# Altium schematic symbol library comp_lib_schem.SchLib: 292 symbols (part 1 of 4)
Pins are listed as number, name and electrical type; pins without a type are passive.

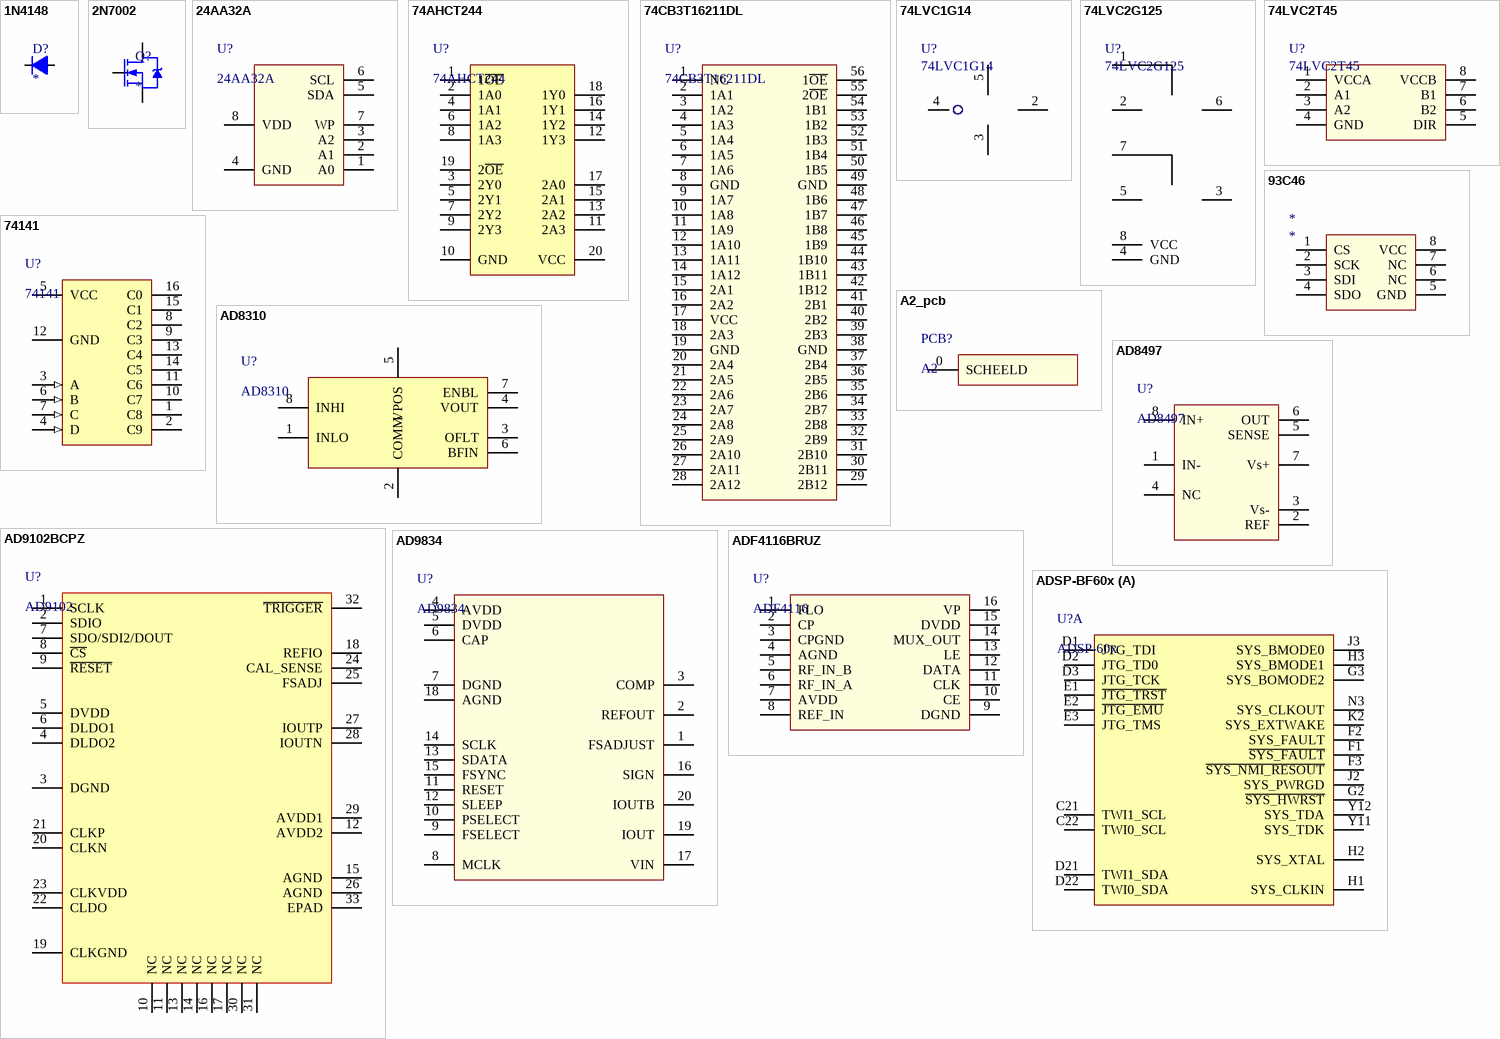
[diagram p0: symbols 1N4148 to ADSP-BF60x]

## 1N4148
designator D?
footprint minimelf
footprint SOD123; pin to pad 1>A 2>K
pins: 1 A, 2 K

## 2N7002
designator Q?
footprint SOT23-3; pin to pad 2>3 3>2
pins: 1 G, 2 D, 3 S

## 24AA32A
designator U?
footprint SOIC8
pins: 1 A0, 2 A1, 3 A2, 4 GND, 5 SDA, 6 SCL, 7 WP, 8 VDD

## 74AHCT244
designator U?
Octal buffer/line driver
footprint TSSOP20 (20-LEAD PLASTIC TSSOP)
footprint SO20 (SOIC, 20-Leads, Body 12,80x7,50mm, Pitch 1,27mm, IPC Medium Density)
pins: 1 1~{OE}, 2 1A0, 3 2Y0, 4 1A1, 5 2Y1, 6 1A2, 7 2Y2, 8 1A3, 9 2Y3, 10 GND, 11 2A3, 12 1Y3, 13 2A2, 14 1Y2, 15 2A1, 16 1Y1, 17 2A0, 18 1Y0, 19 2~{OE}, 20 VCC

## 74CB3T16211DL
designator U?
footprint PSOP56
pins: 1 NC, 2 1A1, 3 1A2, 4 1A3, 5 1A4, 6 1A5, 7 1A6, 8 GND, 9 1A7, 10 1A8, 11 1A9, 12 1A10, 13 1A11, 14 1A12, 15 2A1, 16 2A2, 17 VCC, 18 2A3, 19 GND, 20 2A4, 21 2A5, 22 2A6, 23 2A7, 24 2A8, 25 2A9, 26 2A10, 27 2A11, 28 2A12, 29 2B12, 30 2B11, 31 2B10, 32 2B9, 33 2B8, 34 2B7, 35 2B6, 36 2B5, 37 2B4, 38 GND, 39 2B3, 40 2B2, 41 2B1, 42 1B12, 43 1B11, 44 1B10, 45 1B9, 46 1B8, 47 1B7, 48 1B6, 49 GND, 50 1B5, 51 1B4, 52 1B3, 53 1B2, 54 1B1, 55 2~{OE}, 56 1~{OE}

## 74LVC1G14
designator U?
footprint SOT23-5 (SOT23, 5-Leads, Body 2.9x1.6mm, Pitch 0.95mm, Lead Span 2.8mm, IPC Medium Density)
pins: 2 A, 3 GND, 4 Y, 5 VCC

## 74LVC2G125
designator U?
footprint TSOP8N_DCT (TSOP, 8-Leads, Body 2,95x2,80mm, Pitch 0,65mm, IPC Medium Density)
pins: 1 ~{OE1}, 2 A1, 3 Y2, 4 GND, 5 A2, 6 Y1, 7 ~{OE2}, 8 VCC

## 74LVC2T45
designator U?
footprint TSOP8N_DCT (TSOP, 8-Leads, Body 2,95x2,80mm, Pitch 0,65mm, IPC Medium Density)
pins: 1 VCCA, 2 A1, 3 A2, 4 GND, 5 DIR, 6 B2, 7 B1, 8 VCCB

## 93C46
designator *
footprint SOIC8
pins: 1 CS, 2 SCK, 3 SDI, 4 SDO, 5 GND, 6 NC, 7 NC, 8 VCC

## 74141
designator U?
BCD to Decimal DEvoder/Driver
footprint DIP16
pins: 1 C8, 2 C9 (oc), 3 A (in), 4 D (in), 5 VCC (power), 6 B (in), 7 C (in), 8 C2, 9 C3, 10 C7, 11 C6, 12 GND (power), 13 C4, 14 C5, 15 C1, 16 C0

## A2_pcb
designator PCB?, comment A2
footprint A2_PCB (Plytka do a2)
pins: 0 SCHEELD

## AD8310
designator U?
Power Detector, Voltage-Out, DC to 440 MHz
footprint MSOP8 (COMPLIANT TO JEDEC STANDARDS MO-187-AA)
pins: 1 INLO, 2 COMM, 3 OFLT, 4 VOUT, 5 VPOS, 6 BFIN, 7 ENBL, 8 INHI

## AD8497
designator U?
Thermocouple Amplifier with Cold Junction Compensation
footprint MSOP8 (COMPLIANT TO JEDEC STANDARDS MO-187-AA)
pins: 1 IN-, 2 REF, 3 Vs-, 4 NC, 5 SENSE, 6 OUT, 7 Vs+, 8 IN+

## AD9102BCPZ
designator U?, comment AD9102
14-Bit, 180 MSPS, Digital-to-Analog  Converter and Waveform Generator
footprint LFCP32
pins: 1 SCLK (power), 2 SDIO (power), 3 DGND (power), 4 DLDO2 (power), 5 DVDD (power), 6 DLDO1 (power), 7 SDO/SDI2/DOUT (power), 8 ~{CS} (power), 9 ~{RESET} (power), 10 NC (power), 11 NC (power), 12 AVDD2 (power), 13 NC (power), 14 NC (power), 15 AGND (power), 16 NC (power), 17 NC (power), 18 REFIO (power), 19 CLKGND (power), 20 CLKN (power), 21 CLKP (power), 22 CLDO (power), 23 CLKVDD (power), 24 CAL_SENSE (power), 25 FSADJ (power), 26 AGND (power), 27 IOUTP (power), 28 IOUTN (power), 29 AVDD1 (power), 30 NC (power), 31 NC (power), 32 ~{TRIGGER} (power), 33 EPAD (power)

## AD9834
designator U?
75 MHz Complete DDS
footprint TSSOP20 (20-LEAD PLASTIC TSSOP)
pins: 1 FSADJUST, 2 REFOUT, 3 COMP, 4 AVDD, 5 DVDD, 6 CAP, 7 DGND, 8 MCLK, 9 FSELECT, 10 PSELECT, 11 RESET, 12 SLEEP, 13 SDATA, 14 SCLK, 15 FSYNC, 16 SIGN, 17 VIN, 18 AGND, 19 IOUT, 20 IOUTB

## ADF4116BRUZ
designator U?, comment ADF4116
footprint TSSOP16
pins: 1 FLO, 2 CP, 3 CPGND, 4 AGND, 5 RF_IN_B, 6 RF_IN_A, 7 AVDD, 8 REF_IN, 9 DGND, 10 CE, 11 CLK, 12 DATA, 13 LE, 14 MUX_OUT, 15 DVDD, 16 VP

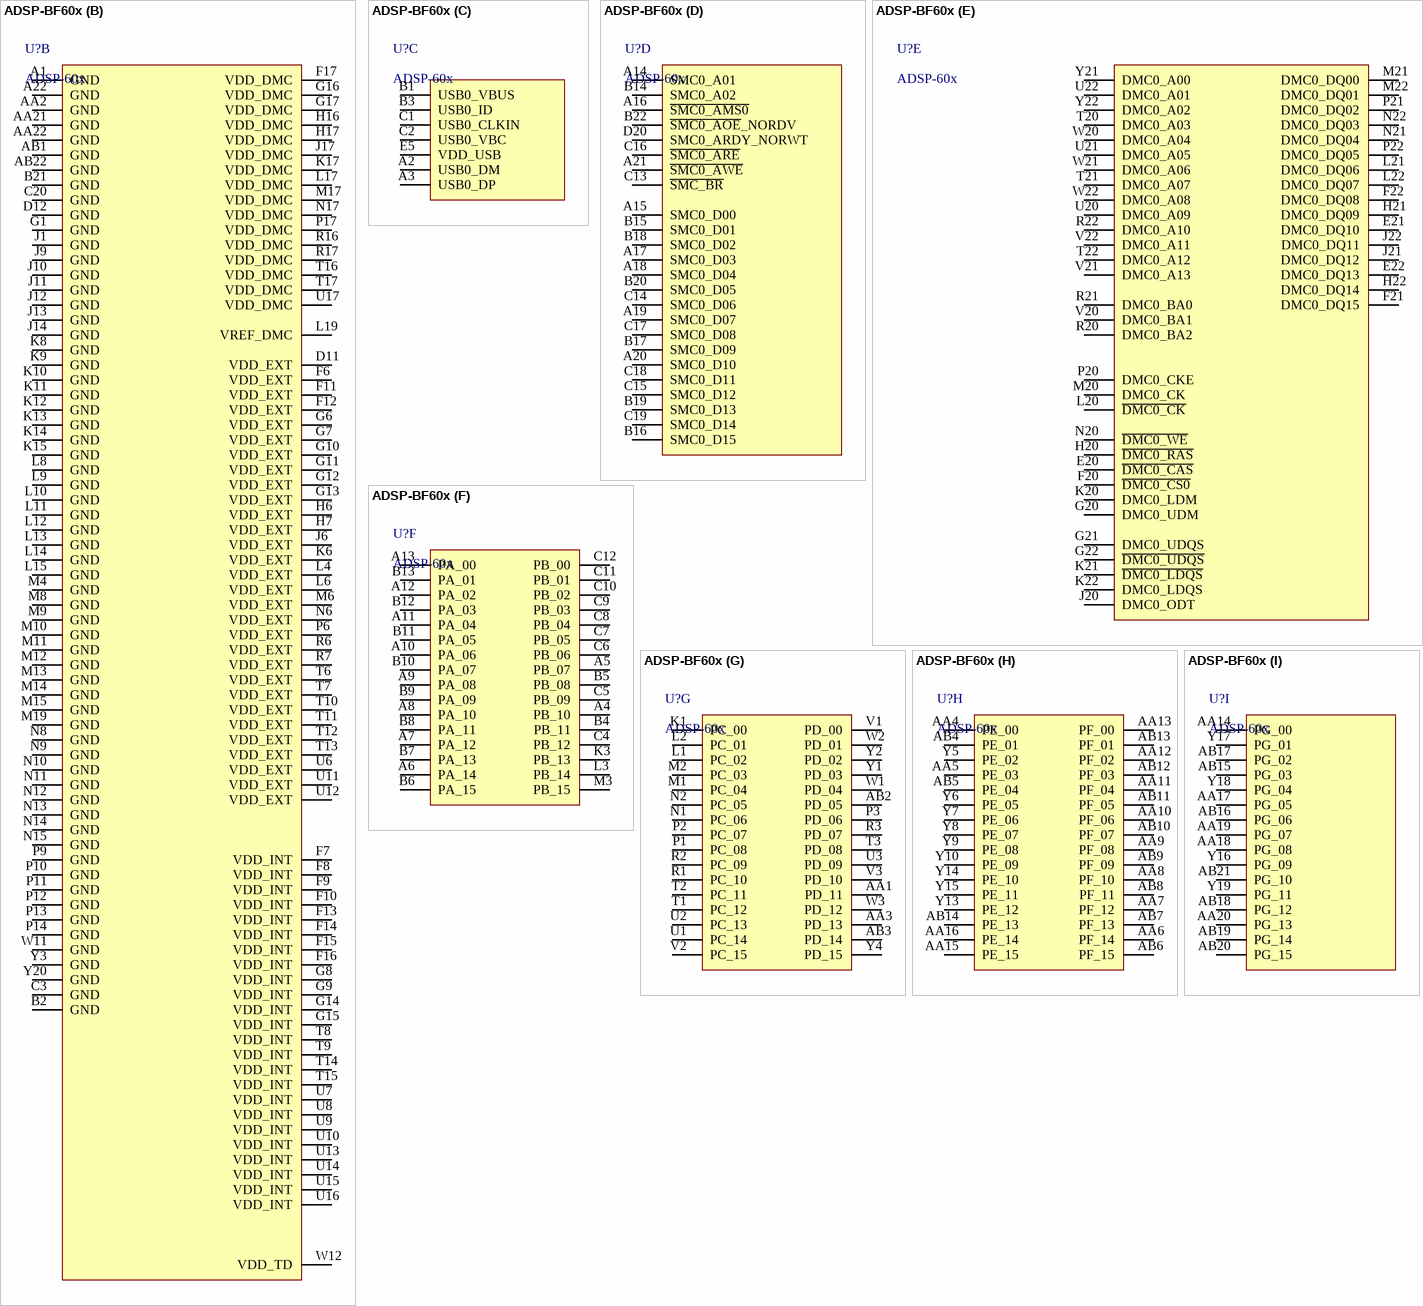
[diagram p1: symbol ADSP-BF60x]

## ADSP-BF60x
designator U?, comment ADSP-60x
Blackfin Dual Core DSP Embedded Processor
footprint BC-349-1 (349-Ball Chip Scale Package Ball Grid Array [CSP_BGA])
part A pins: C21 TWI1_SCL, C22 TWI0_SCL, D1 JTG_TDI, D2 JTG_TD0, D3 JTG_TCK, D21 TWI1_SDA, D22 TWI0_SDA, E1 ~{JTG_TRST}, E2 ~{JTG_EMU}, E3 JTG_TMS, F1 ~{SYS_FAULT}, F2 SYS_FAULT, F3 ~{SYS_NMI_RESOUT}, G2 ~{SYS_HWRST}, G3 SYS_BOMODE2, H1 SYS_CLKIN, H2 SYS_XTAL, H3 SYS_BMODE1, J2 SYS_PWRGD, J3 SYS_BMODE0, K2 SYS_EXTWAKE, N3 SYS_CLKOUT, Y11 SYS_TDK, Y12 SYS_TDA
part B pins: A1 GND, A22 GND, AA2 GND, AA21 GND, AA22 GND, AB1 GND, AB22 GND, B2 GND, B21 GND, C3 GND, C20 GND, D11 VDD_EXT, D12 GND, F6 VDD_EXT, F7 VDD_INT, F8 VDD_INT, F9 VDD_INT, F10 VDD_INT, F11 VDD_EXT, F12 VDD_EXT, F13 VDD_INT, F14 VDD_INT, F15 VDD_INT, F16 VDD_INT, F17 VDD_DMC, G1 GND, G6 VDD_EXT, G7 VDD_EXT, G8 VDD_INT, G9 VDD_INT, G10 VDD_EXT, G11 VDD_EXT, G12 VDD_EXT, G13 VDD_EXT, G14 VDD_INT, G15 VDD_INT, G16 VDD_DMC, G17 VDD_DMC, H6 VDD_EXT, H7 VDD_EXT, H16 VDD_DMC, H17 VDD_DMC, J1 GND, J6 VDD_EXT, J9 GND, J10 GND, J11 GND, J12 GND, J13 GND, J14 GND, J17 VDD_DMC, K6 VDD_EXT, K8 GND, K9 GND, K10 GND, K11 GND, K12 GND, K13 GND, K14 GND, K15 GND, K17 VDD_DMC, L4 VDD_EXT, L6 VDD_EXT, L8 GND, L9 GND, L10 GND, L11 GND, L12 GND, L13 GND, L14 GND, L15 GND, L17 VDD_DMC, L19 VREF_DMC, M4 GND, M6 VDD_EXT, M8 GND, M9 GND, M10 GND, M11 GND, M12 GND, M13 GND, M14 GND, M15 GND, M17 VDD_DMC, M19 GND, N6 VDD_EXT, N8 GND, N9 GND, N10 GND, N11 GND, N12 GND, N13 GND, N14 GND, N15 GND, N17 VDD_DMC, P6 VDD_EXT, P9 GND, P10 GND, P11 GND, P12 GND, P13 GND, P14 GND, P17 VDD_DMC, R6 VDD_EXT, R7 VDD_EXT, R16 VDD_DMC, R17 VDD_DMC, T6 VDD_EXT, T7 VDD_EXT, T8 VDD_INT, T9 VDD_INT, T10 VDD_EXT, T11 VDD_EXT, T12 VDD_EXT, T13 VDD_EXT, T14 VDD_INT, T15 VDD_INT, T16 VDD_DMC, T17 VDD_DMC, U6 VDD_EXT, U7 VDD_INT, U8 VDD_INT, U9 VDD_INT, U10 VDD_INT, U11 VDD_EXT, U12 VDD_EXT, U13 VDD_INT, U14 VDD_INT, U15 VDD_INT, U16 VDD_INT, U17 VDD_DMC, W11 GND, W12 VDD_TD, Y3 GND, Y20 GND
part C pins: A2 USB0_DM, A3 USB0_DP, B1 USB0_VBUS, B3 USB0_ID, C1 USB0_CLKIN, C2 USB0_VBC, E5 VDD_USB
part D pins: A14 SMC0_A01, A15 SMC0_D00, A16 ~{SMC0_AMS0}, A17 SMC0_D03, A18 SMC0_D04, A19 SMC0_D07, A20 SMC0_D10, A21 ~{SMC0_AWE}, B14 SMC0_A02, B15 SMC0_D01, B16 SMC0_D15, B17 SMC0_D09, B18 SMC0_D02, B19 SMC0_D13, B20 SMC0_D05, B22 ~{SMC0_AOE}_NORDV, C13 ~{SMC_BR}, C14 SMC0_D06, C15 SMC0_D12, C16 ~{SMC0_ARE}, C17 SMC0_D08, C18 SMC0_D11, C19 SMC0_D14, D20 SMC0_ARDY_NORWT
part E pins: E20 ~{DMC0_CAS}, E21 DMC0_DQ10, E22 DMC0_DQ13, F20 ~{DMC0_CS0}, F21 DMC0_DQ15, F22 DMC0_DQ08, G20 DMC0_UDM, G21 DMC0_UDQS, G22 ~{DMC0_UDQS}, H20 ~{DMC0_RAS}, H21 DMC0_DQ09, H22 DMC0_DQ14, J20 DMC0_ODT, J21 DMC0_DQ12, J22 DMC0_DQ11, K20 DMC0_LDM, K21 ~{DMC0_LDQS}, K22 DMC0_LDQS, L20 ~{DMC0_CK}, L21 DMC0_DQ06, L22 DMC0_DQ07, M20 DMC0_CK, M21 DMC0_DQ00, M22 DMC0_DQ01, N20 ~{DMC0_WE}, N21 DMC0_DQ04, N22 DMC0_DQ03, P20 DMC0_CKE, P21 DMC0_DQ02, P22 DMC0_DQ05, R20 DMC0_BA2, R21 DMC0_BA0, R22 DMC0_A10, T20 DMC0_A03, T21 DMC0_A07, T22 DMC0_A12, U20 DMC0_A09, U21 DMC0_A05, U22 DMC0_A01, V20 DMC0_BA1, V21 DMC0_A13, V22 DMC0_A11, W20 DMC0_A04, W21 DMC0_A06, W22 DMC0_A08, Y21 DMC0_A00, Y22 DMC0_A02
part F pins: A4 PB_10, A5 PB_07, A6 PA_14, A7 PA_12, A8 PA_10, A9 PA_08, A10 PA_06, A11 PA_04, A12 PA_02, A13 PA_00, B4 PB_11, B5 PB_08, B6 PA_15, B7 PA_13, B8 PA_11, B9 PA_09, B10 PA_07, B11 PA_05, B12 PA_03, B13 PA_01, C4 PB_12, C5 PB_09, C6 PB_06, C7 PB_05, C8 PB_04, C9 PB_03, C10 PB_02, C11 PB_01, C12 PB_00, K3 PB_13, L3 PB_14, M3 PB_15
part G pins: AA1 PD_11, AA3 PD_13, AB2 PD_05, AB3 PD_14, K1 PC_00, L1 PC_02, L2 PC_01, M1 PC_04, M2 PC_03, N1 PC_06, N2 PC_05, P1 PC_08, P2 PC_07, P3 PD_06, R1 PC_10, R2 PC_09, R3 PD_07, T1 PC_12, T2 PC_11, T3 PD_08, U1 PC_14, U2 PC_13, U3 PD_09, V1 PD_00, V2 PC_15, V3 PD_10, W1 PD_04, W2 PD_01, W3 PD_12, Y1 PD_03, Y2 PD_02, Y4 PD_15
part H pins: AA4 PE_00, AA5 PE_03, AA6 PF_14, AA7 PF_12, AA8 PF_10, AA9 PF_08, AA10 PF_06, AA11 PF_04, AA12 PF_02, AA13 PF_00, AA15 PE_15, AA16 PE_14, AB4 PE_01, AB5 PE_04, AB6 PF_15, AB7 PF_13, AB8 PF_11, AB9 PF_09, AB10 PF_07, AB11 PF_05, AB12 PF_03, AB13 PF_01, AB14 PE_13, Y5 PE_02, Y6 PE_05, Y7 PE_06, Y8 PE_07, Y9 PE_08, Y10 PE_09, Y13 PE_12, Y14 PE_10, Y15 PE_11
part I pins: AA14 PG_00, AA17 PG_05, AA18 PG_08, AA19 PG_07, AA20 PG_13, AB15 PG_03, AB16 PG_06, AB17 PG_02, AB18 PG_12, AB19 PG_14, AB20 PG_15, AB21 PG_10, Y16 PG_09, Y17 PG_01, Y18 PG_04, Y19 PG_11

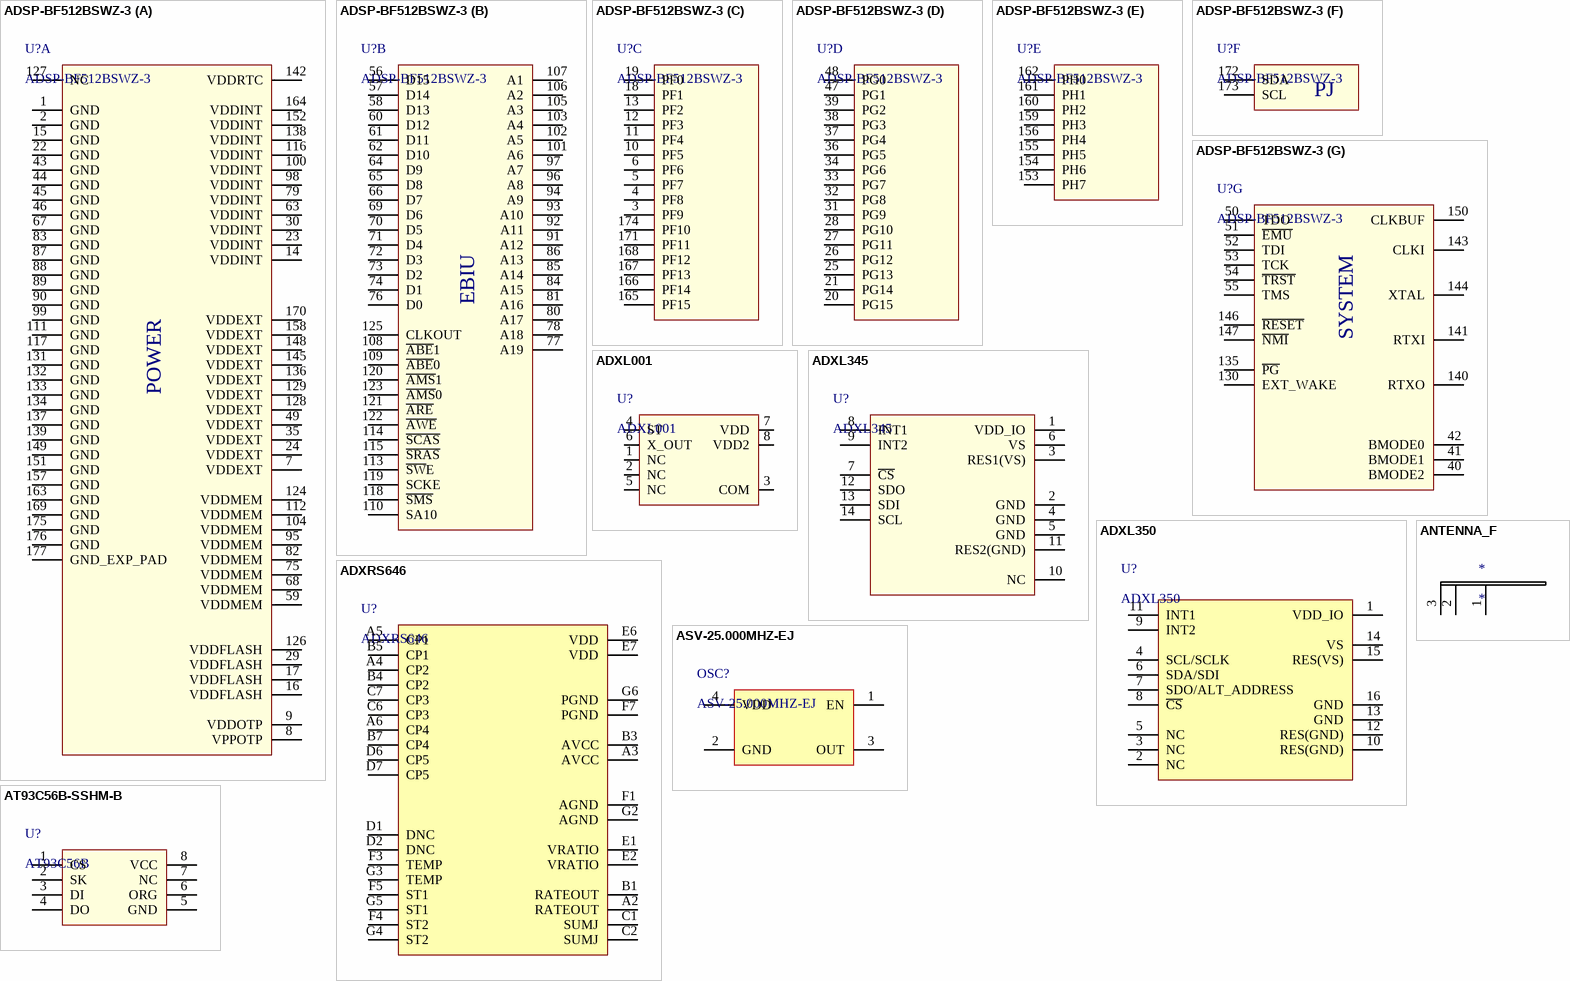
[diagram p2: symbols ADSP-BF512BSWZ-3 to AT93C56B-SSHM-B]

## ADSP-BF512BSWZ-3
designator U?
Fixed Point 16-bit DSP 300MHz
footprint LQFP_EP_176 (TSQFP, 176-Leads, Body 24,00x24,00mm, Pitch 0,50mm, Thermal Pad 5,80x5,80mm, IPC Medium Density)
part A pins: 1 GND, 2 GND, 7 VDDEXT, 8 VPPOTP, 9 VDDOTP, 14 VDDINT, 15 GND, 16 VDDFLASH, 17 VDDFLASH, 22 GND, 23 VDDINT, 24 VDDEXT, 29 VDDFLASH, 30 VDDINT, 35 VDDEXT, 43 GND, 44 GND, 45 GND, 46 GND, 49 VDDEXT, 59 VDDMEM, 63 VDDINT, 67 GND, 68 VDDMEM, 75 VDDMEM, 79 VDDINT, 82 VDDMEM, 83 GND, 87 GND, 88 GND, 89 GND, 90 GND, 95 VDDMEM, 98 VDDINT, 99 GND, 100 VDDINT, 104 VDDMEM, 111 GND, 112 VDDMEM, 116 VDDINT, 117 GND, 124 VDDMEM, 126 VDDFLASH, 127 NC, 128 VDDEXT, 129 VDDEXT, 131 GND, 132 GND, 133 GND, 134 GND, 136 VDDEXT, 137 GND, 138 VDDINT, 139 GND, 142 VDDRTC, 145 VDDEXT, 148 VDDEXT, 149 GND, 151 GND, 152 VDDINT, 157 GND, 158 VDDEXT, 163 GND, 164 VDDINT, 169 GND, 170 VDDEXT, 175 GND, 176 GND, 177 GND_EXP_PAD
part B pins: 56 D15, 57 D14, 58 D13, 60 D12, 61 D11, 62 D10, 64 D9, 65 D8, 66 D7, 69 D6, 70 D5, 71 D4, 72 D3, 73 D2, 74 D1, 76 D0, 77 A19, 78 A18, 80 A17, 81 A16, 84 A15, 85 A14, 86 A13, 91 A12, 92 A11, 93 A10, 94 A9, 96 A8, 97 A7, 101 A6, 102 A5, 103 A4, 105 A3, 106 A2, 107 A1, 108 ~{ABE}1, 109 ~{ABE}0, 110 SA10, 113 ~{SW}E, 114 ~{SCAS}, 115 ~{SRAS}, 118 ~{SMS}, 119 SCKE, 120 ~{AMS}1, 121 ~{ARE}, 122 ~{AWE}, 123 ~{AMS}0, 125 CLKOUT
part C pins: 3 PF9, 4 PF8, 5 PF7, 6 PF6, 10 PF5, 11 PF4, 12 PF3, 13 PF2, 18 PF1, 19 PF0, 165 PF15, 166 PF14, 167 PF13, 168 PF12, 171 PF11, 174 PF10
part D pins: 20 PG15, 21 PG14, 25 PG13, 26 PG12, 27 PG11, 28 PG10, 31 PG9, 32 PG8, 33 PG7, 34 PG6, 36 PG5, 37 PG4, 38 PG3, 39 PG2, 47 PG1, 48 PG0
part E pins: 153 PH7, 154 PH6, 155 PH5, 156 PH4, 159 PH3, 160 PH2, 161 PH1, 162 PH0
part F pins: 172 SDA, 173 SCL
part G pins: 40 BMODE2, 41 BMODE1, 42 BMODE0, 50 TDO, 51 ~{EMU}, 52 TDI, 53 TCK, 54 ~{TRST}, 55 TMS, 130 EXT_WAKE, 135 ~{PG}, 140 RTXO, 141 RTXI, 143 CLKI, 144 XTAL, 146 ~{RESET}, 147 ~{NMI}, 150 CLKBUF
part A text: POWER
part B text: EBIU
part F text: PJ
part G text: SYSTEM

## ADXL001
designator U?
footprint LCC8_AD (LCC, 8-Pins, Body 5,03x4,50mmx2,39mm, Pitch 1,27mm, IPC Medium Density)
pins: 1 NC, 2 NC, 3 COM, 4 ST, 5 NC, 6 X_OUT, 7 VDD, 8 VDD2

## ADXL345
designator U?
footprint LGA14
pins: 1 VDD_IO, 2 GND, 3 RES1(VS), 4 GND, 5 GND, 6 VS, 7 ~{CS}, 8 INT1, 9 INT2, 10 NC, 11 RES2(GND), 12 SDO, 13 SDI, 14 SCL

## ADXL350
designator U?
3-Axis, ±1 g/±2 g/±4 g/±8 g Digital Accelerometer
pins: 1 VDD_IO, 2 NC, 3 NC, 4 SCL/SCLK, 5 NC, 6 SDA/SDI, 7 SDO/ALT_ADDRESS, 8 ~{CS}, 9 INT2, 10 RES(GND), 11 INT1, 12 RES(GND), 13 GND, 14 VS, 15 RES(VS), 16 GND

## ADXRS646
designator U?
Low Noise Yaw Rate Gyroscope
footprint BGA_32_3 (BGA, 49-Leads, Body 6,88x6,88mmx3,80mm, Pitch 0,80mm)
pins: A2 RATEOUT, A3 AVCC, A4 CP2, A5 CP1, A6 CP4, B1 RATEOUT, B3 AVCC, B4 CP2, B5 CP1, B7 CP4, C1 SUMJ, C2 SUMJ, C6 CP3, C7 CP3, D1 DNC, D2 DNC, D6 CP5, D7 CP5, E1 VRATIO, E2 VRATIO, E6 VDD, E7 VDD, F1 AGND, F3 TEMP, F4 ST2, F5 ST1, F7 PGND, G2 AGND, G3 TEMP, G4 ST2, G5 ST1, G6 PGND

## ANTENNA_F
designator *
footprint ANTENNA_F
pins: 1, 2, 3

## ASV-25.000MHZ-EJ
designator OSC?
SMD Crystal Clock Oscillator 25MHz
footprint ASV_xx_EJ (Abracon Generator)
pins: 1 EN (power), 2 GND (power), 3 OUT (power), 4 VDD (power)

## AT93C56B-SSHM-B
designator U?, comment AT93C56B
3-wire Serial EEPROM
footprint SOIC8
pins: 1 CS, 2 SK, 3 DI, 4 DO, 5 GND, 6 ORG, 7 NC, 8 VCC

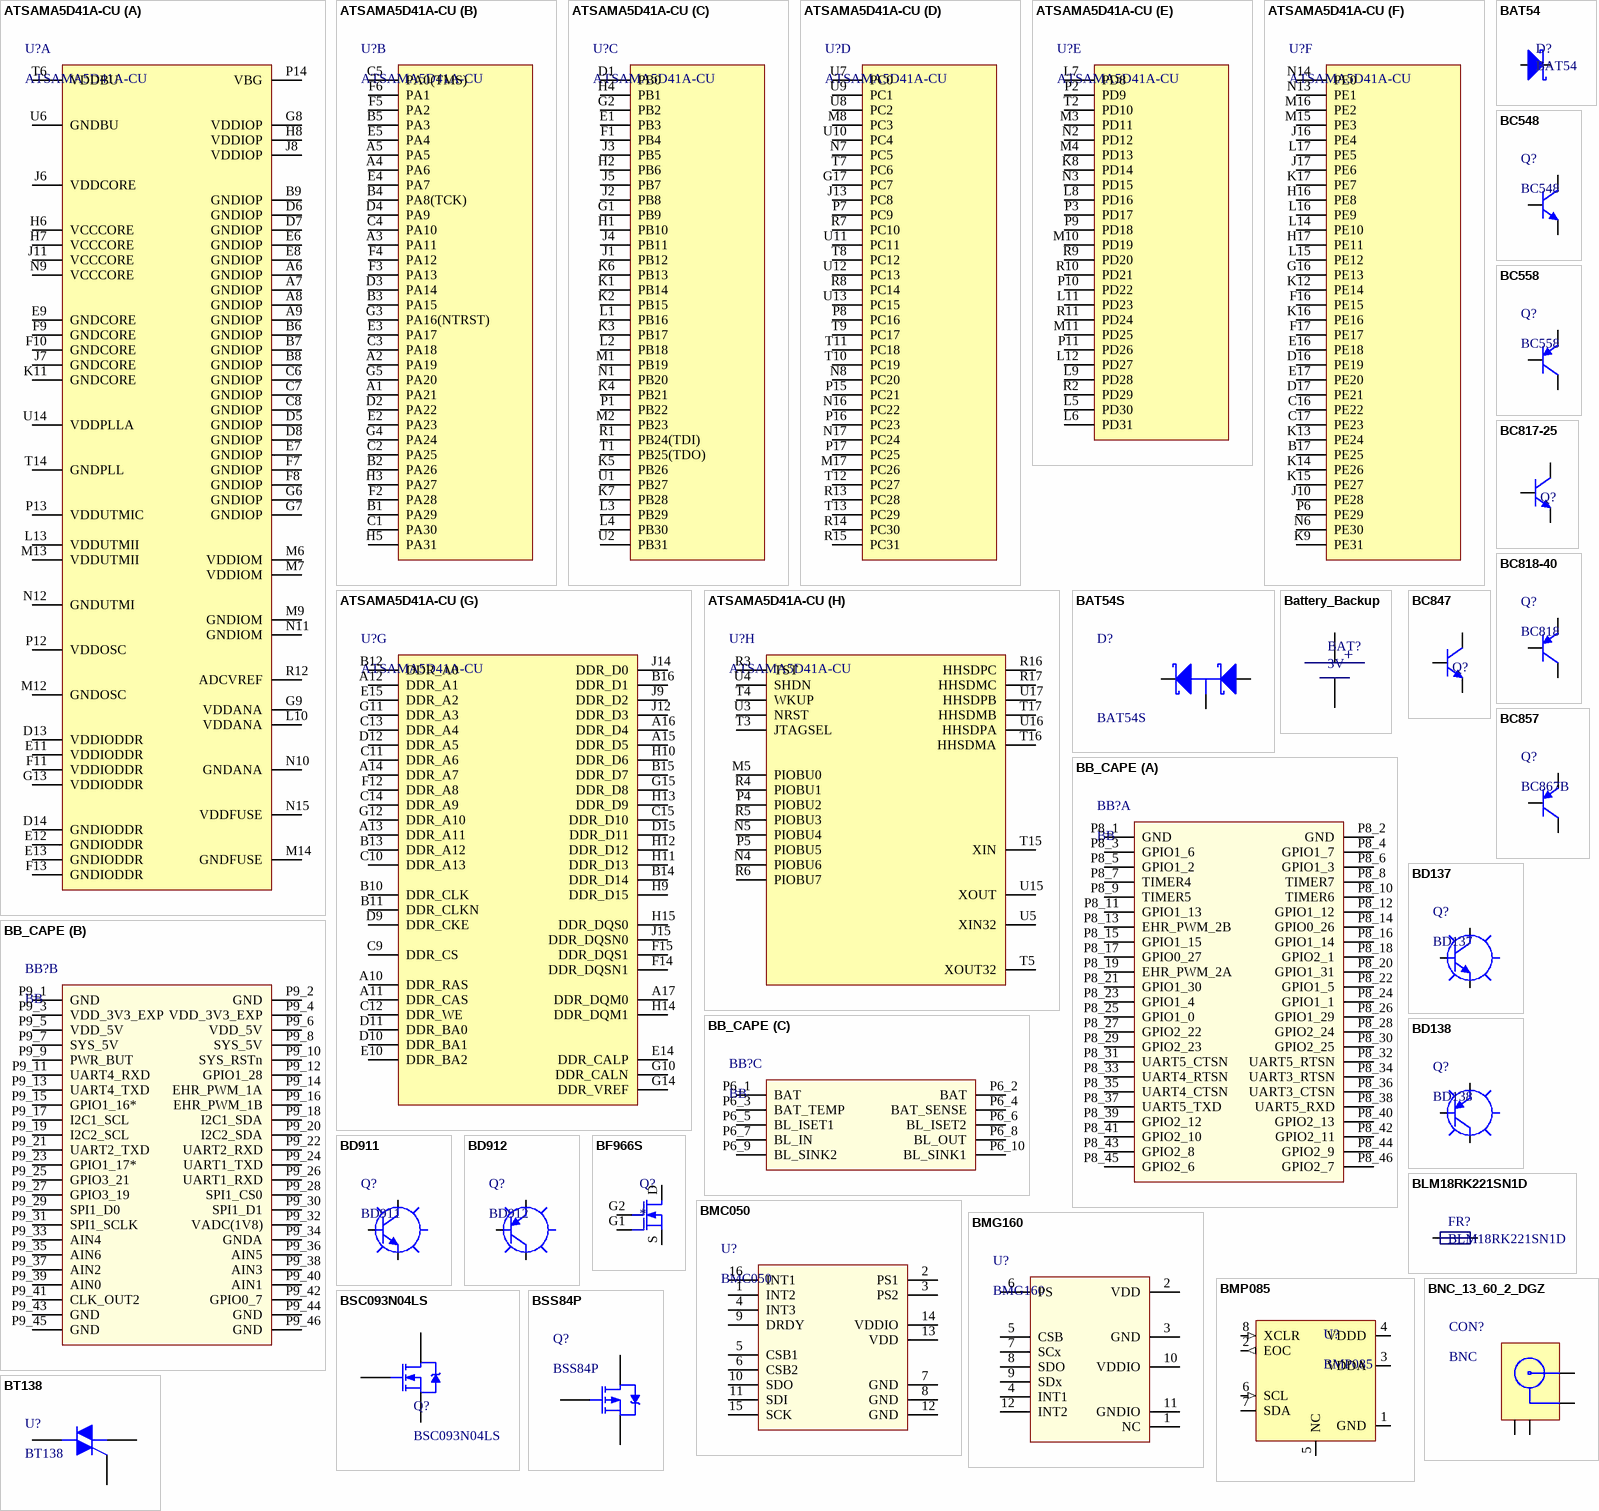
[diagram p3: symbols ATSAMA5D41A-CU to BT138]

## ATSAMA5D41A-CU
designator U?
Atmel | SMART ARM-based Embedded MPU
footprint LFBGA289_A (atmel)
part A pins: A6 GNDIOP, A7 GNDIOP, A8 GNDIOP, A9 GNDIOP, B6 GNDIOP, B7 GNDIOP, B8 GNDIOP, B9 GNDIOP, C6 GNDIOP, C7 GNDIOP, C8 GNDIOP, D5 GNDIOP, D6 GNDIOP, D7 GNDIOP, D8 GNDIOP, D13 VDDIODDR, D14 GNDIODDR, E6 GNDIOP, E7 GNDIOP, E8 GNDIOP, E9 GNDCORE, E11 VDDIODDR, E12 GNDIODDR, E13 GNDIODDR, F7 GNDIOP, F8 GNDIOP, F9 GNDCORE, F10 GNDCORE, F11 VDDIODDR, F13 GNDIODDR, G6 GNDIOP, G7 GNDIOP, G8 VDDIOP, G9 VDDANA, G13 VDDIODDR, H6 VCCCORE, H7 VCCCORE, H8 VDDIOP, J6 VDDCORE, J7 GNDCORE, J8 VDDIOP, J11 VCCCORE, K11 GNDCORE, L10 VDDANA, L13 VDDUTMII, M6 VDDIOM, M7 VDDIOM, M9 GNDIOM, M12 GNDOSC, M13 VDDUTMII, M14 GNDFUSE, N9 VCCCORE, N10 GNDANA, N11 GNDIOM, N12 GNDUTMI, N15 VDDFUSE, P12 VDDOSC, P13 VDDUTMIC, P14 VBG, R12 ADCVREF, T6 VDDBU, T14 GNDPLL, U6 GNDBU, U14 VDDPLLA
part B pins: A1 PA21, A2 PA19, A3 PA11, A4 PA6, A5 PA5, B1 PA29, B2 PA26, B3 PA15, B4 PA8(TCK), B5 PA3, C1 PA30, C2 PA25, C3 PA18, C4 PA10, C5 PA0(TMS), D2 PA22, D3 PA14, D4 PA9, E2 PA23, E3 PA17, E4 PA7, E5 PA4, F2 PA28, F3 PA13, F4 PA12, F5 PA2, F6 PA1, G3 PA16(NTRST), G4 PA24, G5 PA20, H3 PA27, H5 PA31
part C pins: D1 PB0, E1 PB3, F1 PB4, G1 PB9, G2 PB2, H1 PB10, H2 PB6, H4 PB1, J1 PB12, J2 PB8, J3 PB5, J4 PB11, J5 PB7, K1 PB14, K2 PB15, K3 PB17, K4 PB21, K5 PB26, K6 PB13, K7 PB28, L1 PB16, L2 PB18, L3 PB29, L4 PB30, M1 PB19, M2 PB23, N1 PB20, P1 PB22, R1 PB24(TDI), T1 PB25(TDO), U1 PB27, U2 PB31
part D pins: G17 PC7, J13 PC8, M8 PC3, M17 PC26, N7 PC5, N8 PC20, N16 PC22, N17 PC24, P7 PC9, P8 PC16, P15 PC21, P16 PC23, P17 PC25, R7 PC10, R8 PC14, R13 PC28, R14 PC30, R15 PC31, T7 PC6, T8 PC12, T9 PC17, T10 PC19, T11 PC18, T12 PC27, T13 PC29, U7 PC0, U8 PC2, U9 PC1, U10 PC4, U11 PC11, U12 PC13, U13 PC15
part E pins: K8 PD14, L5 PD30, L6 PD31, L7 PD8, L8 PD16, L9 PD28, L11 PD23, L12 PD27, M3 PD11, M4 PD13, M10 PD19, M11 PD25, N2 PD12, N3 PD15, P2 PD9, P3 PD17, P9 PD18, P10 PD22, P11 PD26, R2 PD29, R9 PD20, R10 PD21, R11 PD24, T2 PD10
part F pins: B17 PE25, C16 PE22, C17 PE23, D16 PE19, D17 PE21, E16 PE18, E17 PE20, F16 PE15, F17 PE17, G16 PE13, H16 PE8, H17 PE11, J10 PE28, J16 PE4, J17 PE6, K9 PE31, K12 PE14, K13 PE24, K14 PE26, K15 PE27, K16 PE16, K17 PE7, L14 PE10, L15 PE12, L16 PE9, L17 PE5, M15 PE3, M16 PE2, N6 PE30, N13 PE1, N14 PE0, P6 PE29
part G pins: A10 DDR_RAS, A11 DDR_CAS, A12 DDR_A1, A13 DDR_A11, A14 DDR_A7, A15 DDR_D5, A16 DDR_D4, A17 DDR_DQM0, B10 DDR_CLK, B11 DDR_CLKN, B12 DDR_A0, B13 DDR_A12, B14 DDR_D14, B15 DDR_D7, B16 DDR_D1, C9 DDR_CS, C10 DDR_A13, C11 DDR_A6, C12 DDR_WE, C13 DDR_A4, C14 DDR_A9, C15 DDR_D10, D9 DDR_CKE, D10 DDR_BA1, D11 DDR_BA0, D12 DDR_A5, D15 DDR_D11, E10 DDR_BA2, E14 DDR_CALP, E15 DDR_A2, F12 DDR_A8, F14 DDR_DQSN1, F15 DDR_DQS1, G10 DDR_CALN, G11 DDR_A3, G12 DDR_A10, G14 DDR_VREF, G15 DDR_D8, H9 DDR_D15, H10 DDR_D6, H11 DDR_D13, H12 DDR_D12, H13 DDR_D9, H14 DDR_DQM1, H15 DDR_DQS0, J9 DDR_D2, J12 DDR_D3, J14 DDR_D0, J15 DDR_DQSN0
part H pins: M5 PIOBU0, N4 PIOBU6, N5 PIOBU4, P4 PIOBU2, P5 PIOBU5, R3 TST, R4 PIOBU1, R5 PIOBU3, R6 PIOBU7, R16 HHSDPC, R17 HHSDMC, T3 JTAGSEL, T4 WKUP, T5 XOUT32, T15 XIN, T16 HHSDMA, T17 HHSDMB, U3 NRST, U4 SHDN, U5 XIN32, U15 XOUT, U16 HHSDPA, U17 HHSDPB

## BAT54
designator D?
footprint SOT23-3; pin to pad 2>3
pins: 1 A, 2 K

## BAT54S
designator D?
Schottky Barrier Double Diode; Published: 17-Sep-2003; LatestRevisionDate: 12-Dec-2006; LatestRevisionNote: IPC-7351 Footprint Added.; DatasheetVersion: 4-Mar-2002; PackageVersion: May-1999; PackageReference: SOT23; Publisher: Altium Limited; PackageDescription: 3-Pin SOT-23 Package 0.95 mm Pitch, 2.3 mm Lead Span; ComponentLink1Description: Manufacturer Link; ComponentLink1URL: http://www.semiconductors.philips.com/; ComponentLink2Description: Datasheet; ComponentLink2URL: http://www.semiconductors.philips.com/acrobat/datasheets/BAT54_SERIES_4.pdf
footprint SOT23-3
pins: 1 A, 2 K, 3 C

## Battery_Backup
designator BAT?, comment 3V
footprint CH291-1220LF (COIN CELL BATTERY HOLDER CR1220)
pins: 1 -, 2 +

## BB_CAPE
designator BB?, comment BB
footprint BB_CAPE (Beaglebone Cape pcb)
part A pins: P8_1 GND, P8_2 GND, P8_3 GPIO1_6, P8_4 GPIO1_7, P8_5 GPIO1_2, P8_6 GPIO1_3, P8_7 TIMER4, P8_8 TIMER7, P8_9 TIMER5, P8_10 TIMER6, P8_11 GPIO1_13, P8_12 GPIO1_12, P8_13 EHR_PWM_2B, P8_14 GPIO0_26, P8_15 GPIO1_15, P8_16 GPIO1_14, P8_17 GPIO0_27, P8_18 GPIO2_1, P8_19 EHR_PWM_2A, P8_20 GPIO1_31, P8_21 GPIO1_30, P8_22 GPIO1_5, P8_23 GPIO1_4, P8_24 GPIO1_1, P8_25 GPIO1_0, P8_26 GPIO1_29, P8_27 GPIO2_22, P8_28 GPIO2_24, P8_29 GPIO2_23, P8_30 GPIO2_25, P8_31 UART5_CTSN, P8_32 UART5_RTSN, P8_33 UART4_RTSN, P8_34 UART3_RTSN, P8_35 UART4_CTSN, P8_36 UART3_CTSN, P8_37 UART5_TXD, P8_38 UART5_RXD, P8_39 GPIO2_12, P8_40 GPIO2_13, P8_41 GPIO2_10, P8_42 GPIO2_11, P8_43 GPIO2_8, P8_44 GPIO2_9, P8_45 GPIO2_6, P8_46 GPIO2_7
part B pins: P9_1 GND, P9_2 GND, P9_3 VDD_3V3_EXP, P9_4 VDD_3V3_EXP, P9_5 VDD_5V, P9_6 VDD_5V, P9_7 SYS_5V, P9_8 SYS_5V, P9_9 PWR_BUT, P9_10 SYS_RSTn, P9_11 UART4_RXD, P9_12 GPIO1_28, P9_13 UART4_TXD, P9_14 EHR_PWM_1A, P9_15 GPIO1_16*, P9_16 EHR_PWM_1B, P9_17 I2C1_SCL, P9_18 I2C1_SDA, P9_19 I2C2_SCL, P9_20 I2C2_SDA, P9_21 UART2_TXD, P9_22 UART2_RXD, P9_23 GPIO1_17*, P9_24 UART1_TXD, P9_25 GPIO3_21, P9_26 UART1_RXD, P9_27 GPIO3_19, P9_28 SPI1_CS0, P9_29 SPI1_D0, P9_30 SPI1_D1, P9_31 SPI1_SCLK, P9_32 VADC(1V8), P9_33 AIN4, P9_34 GNDA, P9_35 AIN6, P9_36 AIN5, P9_37 AIN2, P9_38 AIN3, P9_39 AIN0, P9_40 AIN1, P9_41 CLK_OUT2, P9_42 GPIO0_7, P9_43 GND, P9_44 GND, P9_45 GND, P9_46 GND
part C pins: P6_1 BAT, P6_2 BAT, P6_3 BAT_TEMP, P6_4 BAT_SENSE, P6_5 BL_ISET1, P6_6 BL_ISET2, P6_7 BL_IN, P6_8 BL_OUT, P6_9 BL_SINK2, P6_10 BL_SINK1

## BC548
designator Q?
footprint TO-92; pin to pad B>2 C>1 E>3
footprint TO_92_2; pin to pad B>2 C>1 E>3
pins: B, C, E

## BC558
designator Q?
footprint TO-92; pin to pad B>2 C>1 E>3
footprint TO_92_2; pin to pad B>2 C>1 E>3
pins: B, C, E

## BC817-25
designator Q?  (value not drawn)
NPN General-purpose Transistor; Published: 17-Sep-2003; LatestRevisionDate: 12-Dec-2006; LatestRevisionNote: IPC-7351 Footprint Added.; DatasheetVersion: Jun-1999; PackageVersion: May-1999; PackageReference: SOT23; Publisher: Altium Limited; PackageDescription: 3-Pin SOT-23 Package 0.95 mm Pitch, 2.3 mm Lead Span; ComponentLink1Description: Manufacturer Link; ComponentLink1URL: http://www.semiconductors.philips.com/; ComponentLink2Description: Datasheet; ComponentLink2URL: http://www.semiconductors.philips.com/acrobat/datasheets/BC817_BC817W_BC337_5.pdf
footprint SOT23-3
pins: 1 B, 2 E, 3 C

## BC818-40
designator Q?, comment BC818
footprint SOT23-3; pin to pad B>1 C>3 E>2
pins: B, C, E

## BC847
designator Q?  (value not drawn)
NPN  50V 100mA; Published: 17-Sep-2003; LatestRevisionDate: 12-Dec-2006; LatestRevisionNote: IPC-7351 Footprint Added.; DatasheetVersion: Jun-1999; PackageVersion: May-1999; PackageReference: SOT23; Publisher: Altium Limited; PackageDescription: 3-Pin SOT-23 Package 0.95 mm Pitch, 2.3 mm Lead Span; ComponentLink1Description: Manufacturer Link; ComponentLink1URL: http://www.semiconductors.philips.com/; ComponentLink2Description: Datasheet; ComponentLink2URL: http://www.semiconductors.philips.com/acrobat/datasheets/BC817_BC817W_BC337_5.pdf
footprint SOT23-3
pins: 1 B, 2 E, 3 C

## BC857
designator Q?, comment BC867B
PNP 50V 100mA
footprint SOT23-3; pin to pad B>1 C>3 E>2
pins: B, C, E

## BD137
designator Q?
Plastic Medium-Power  Silicon NPN Transistors
footprint TO_126_H (Horizontall TO_126)
footprint TO_126_V (Vertical TO_126)
pins: 1 E, 2 C, 3 B

## BD138
designator Q?
Plastic Medium-Power  Silicon PNPTransistors
footprint TO_126_H (Horizontall TO_126)
footprint TO_126_V (Vertical TO_126)
pins: 1 E, 2 C, 3 B

## BD911
designator Q?
Power NPN Transistors
footprint TO-220AB (TO, Thru-Hole, Vertical, Heatsink Mounted; 3 In-Line Leads; Pitch 2.54 mm)
footprint TO-220_H (Horizontal)
pins: 1 B, 2 C, 3 E

## BD912
designator Q?
Power PNP Transistors
footprint TO-220AB (TO, Thru-Hole, Vertical, Heatsink Mounted; 3 In-Line Leads; Pitch 2.54 mm)
footprint TO-220_H (Horizontal)
pins: 1 B, 2 C, 3 E

## BF966S
designator Q?
N-Channel Dual Gate MOS-Fieldeffect Tetrode
footprint DGMOSFET; pin to pad D>1 G1>3 G2>4 S>2
pins: D, G1, G2, S

## BLM18RK221SN1D
designator FR?
footprint 0603_IND
footprint 1206_IND (3216(metric))
pins: 1, 2

## BMC050
designator U?
footprint LGA16_3x3 (LGA16 Bosch BMC050)
pins: 1 INT2, 2 PS1, 3 PS2, 4 INT3, 5 CSB1, 6 CSB2, 7 GND, 8 GND, 9 DRDY, 10 SDO, 11 SDI, 12 GND, 13 VDD, 14 VDDIO, 15 SCK, 16 INT1

## BMG160
designator U?
footprint LGA12_3x3 (Bosch BMG160)
pins: 1 NC, 2 VDD, 3 GND, 4 INT1, 5 CSB, 6 PS, 7 SCx, 8 SDO, 9 SDx, 10 VDDIO, 11 GNDIO, 12 INT2

## BMP085
designator U?
footprint LCC8
pins: 1 GND, 2 EOC (out), 3 VDDA, 4 VDDD, 5 NC, 6 SCL (in), 7 SDA (oc), 8 XCLR (in)

## BNC_13_60_2_DGZ
designator CON?, comment BNC
footprint BNC_13602 (multicomp 13-60-2 DGZ BNC connector); pin to pad 0>1 1>2 2>3 3>4
pins: 0, 1, 2, 3

## BSC093N04LS
designator Q?
footprint PG_TDSON_8
pins: 1 S, 2 S, 3 S, 4 G, 5 D

## BSS84P
designator Q?
footprint SOT23-3; pin to pad 2>3 3>2
pins: 1 G, 2 D, 3 S

## BT138
designator U?
BT138, 600V Triac
footprint TO-220AB (TO, Thru-Hole, Vertical, Heatsink Mounted; 3 In-Line Leads; Pitch 2.54 mm)
pins: 1 M1, 2 M2, 3 G

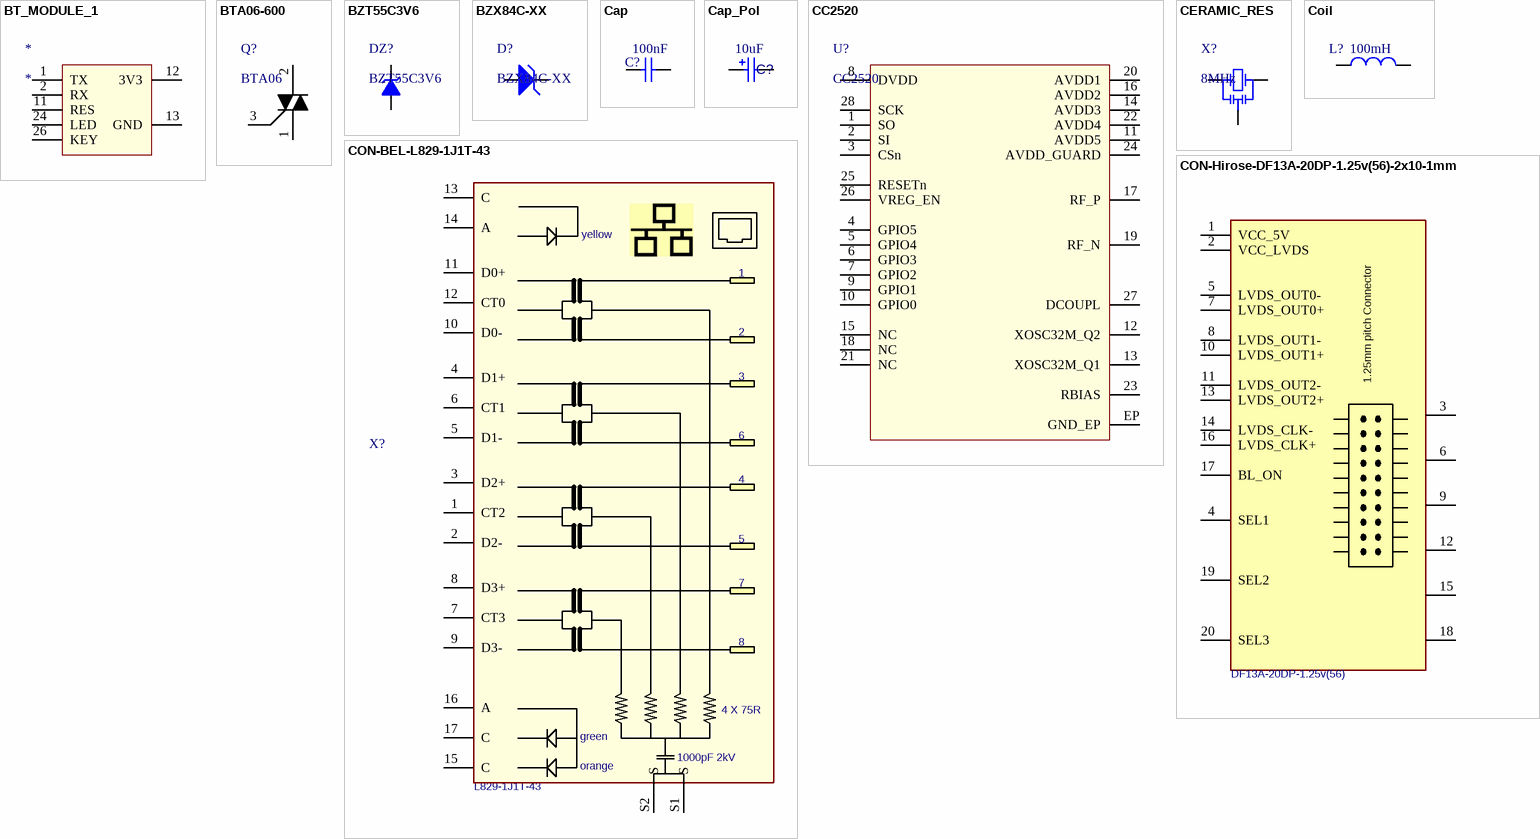
[diagram p4: symbols BT_MODULE_1 to CON-Hirose-DF13A-20DP-1.25v(56)-2x10-1mm]

## BT_MODULE_1
designator *
footprint BT_MOD
pins: 1 TX, 2 RX, 11 RES, 12 3V3, 13 GND, 24 LED, 26 KEY

## BTA06-600
designator Q?, comment BTA06
footprint TO-220AB (TO, Thru-Hole, Vertical, Heatsink Mounted; 3 In-Line Leads; Pitch 2.54 mm)
pins: 1 A1, 2 A2, 3 G

## BZT55C3V6
designator DZ?
3V6 zener diode
footprint minimelf; pin to pad 1>2 2>1
pins: 1 K, 2 A

## BZX84C-XX
designator D?
footprint SOT23-3; pin to pad 2>3
pins: 1 A, 2 K

## Cap
designator C?, comment 100nF
Ceramic capacitor; Unit Price1: *; Unit Price2: *; Value: 100nF
footprint 0805_CAP
footprint 0603_CAP
footprint 1210_CAP
footprint 0402_CAP (Chip Capacitor, 2-Leads, Body 0,40x0,20mm, IPC Medium Density)
footprint 1206_CAP (3216(metric))
pins: 1, 2

## Cap_Pol
designator C?, comment 10uF
Polar capacitor; Value: 10uF
footprint CAP_EL_4x5 (SMD electrolytic capacitor)
footprint CAP_EL_5x5.5 (SMD electrolytic capacitor)
footprint CAP_EL_6.3x5.5 (SMD electrolytical capacitor)
footprint CAP_EL_8x10_5 (Base 8,2mm height 10mm, 220uF, 35V AD6)
footprint CAP_TAN_A (Capacitor, SM Tantalum; Body 3.2 x 1.6 mm (LxW typ))
footprint CAP_TAN_B (Capacitor, SM Tantalum; Body 3.5 x 2.8 mm (LxW typ))
footprint CAP_TAN_C (Capacitor, SM Tantalum; Body 6.0 x 3.2 mm (LxW typ))
footprint CAP_TAN_D (Capacitor, SM Tantalum; Body 7.3 x 4.3 mm (LxW typ))
footprint CAP_EL_16x31_5
footprint CAP_EL_22x30
pins: 1, 2
2 alternate drawings of the same symbol

## CC2520
designator U?
footprint PVQFN-N28 (QFN, 28-Leads, Body 5,00x5,00mm, Pitch 0,50mm, Thermal Pad 3,15x3,15mm, IPC Medium Density); pin to pad EP>29
pins: 1 SO, 2 SI, 3 CSn, 4 GPIO5, 5 GPIO4, 6 GPIO3, 7 GPIO2, 8 DVDD, 9 GPIO1, 10 GPIO0, 11 AVDD5, 12 XOSC32M_Q2, 13 XOSC32M_Q1, 14 AVDD3, 15 NC, 16 AVDD2, 17 RF_P, 18 NC, 19 RF_N, 20 AVDD1, 21 NC, 22 AVDD4, 23 RBIAS, 24 AVDD_GUARD, 25 RESETn, 26 VREG_EN, 27 DCOUPL, 28 SCK, EP GND_EP

## CERAMIC_RES
designator X?, comment 8MHz
Value: 8MHz
footprint XTAL_CERAMIC (ceramic resonator)
pins: 1 OSC1, 2 GND, 3 OSC2

## Coil
designator L?, comment 100mH
Coil for ADC filtering; Value: 100mH
footprint 0603_IND
footprint 0805_IND ((2012 metric))
footprint 1206_IND (3216(metric))
footprint 0402_IND
footprint 1210_IND
footprint SRR1280 (BOURNS SRR1280 Series - Shielded SMD Power Inductors)
footprint IND_PFL4514 (Coilcraft PFL4514)
footprint INDP7065X30N (IHLP2525)
footprint INDP3428_ME3220 (2.5 × 3.2 base Inductor)
footprint INDP125125X50N (Precision Wire Wound Inductor, 2-Leads, Body 12,5x12,5mm, IPC Medium Density)
footprint SDR0604 (SDR0604 INDUCTOR)
pins: 1, 2

## CON-BEL-L829-1J1T-43
designator X?, comment L829-1J1T-43
Low profile 10/100/1G Mag Jack; Manufacturer Name: BEL; Manufacturer Part No.: L829-1J1T-43
footprint T_BEL_L829-1J1T-43 (LOW PROFILE GIGABIT ETHERNET JACK WITH MAGS)
pins: 1 CT2, 2 D2-, 3 D2+, 4 D1+, 5 D1-, 6 CT1, 7 CT3, 8 D3+, 9 D3-, 10 D0-, 11 D0+, 12 CT0, 13 C, 14 A, 15 C, 16 A, 17 C, S1 S, S2 S
text: yellow; 4 X 75R; green; 1000pF 2kV; orange

## CON-Hirose-DF13A-20DP-1.25v(56)-2x10-1mm
designator X?  Manufacturer Part No.: DF13A-20DP-1.25v(56)  (hidden comment: CON-Hirose-DF13A-20DP-1.25v(56)-2x10-1mm)
LVDS Connector; Manufacturer Name: Hirose; No. of ways: 2x10; Pitch: 1mm
footprint T_HIROSE_DF13A-20DP-1.25V(56)
pins: 1 VCC_5V, 2 VCC_LVDS, 3 GND, 4 SEL1, 5 LVDS_OUT0-, 6 GND, 7 LVDS_OUT0+, 8 LVDS_OUT1-, 9 GND, 10 LVDS_OUT1+, 11 LVDS_OUT2-, 12 GND, 13 LVDS_OUT2+, 14 LVDS_CLK-, 15 GND, 16 LVDS_CLK+, 17 BL_ON, 18 GND, 19 SEL2, 20 SEL3
text: 1.25mm pitch Connector

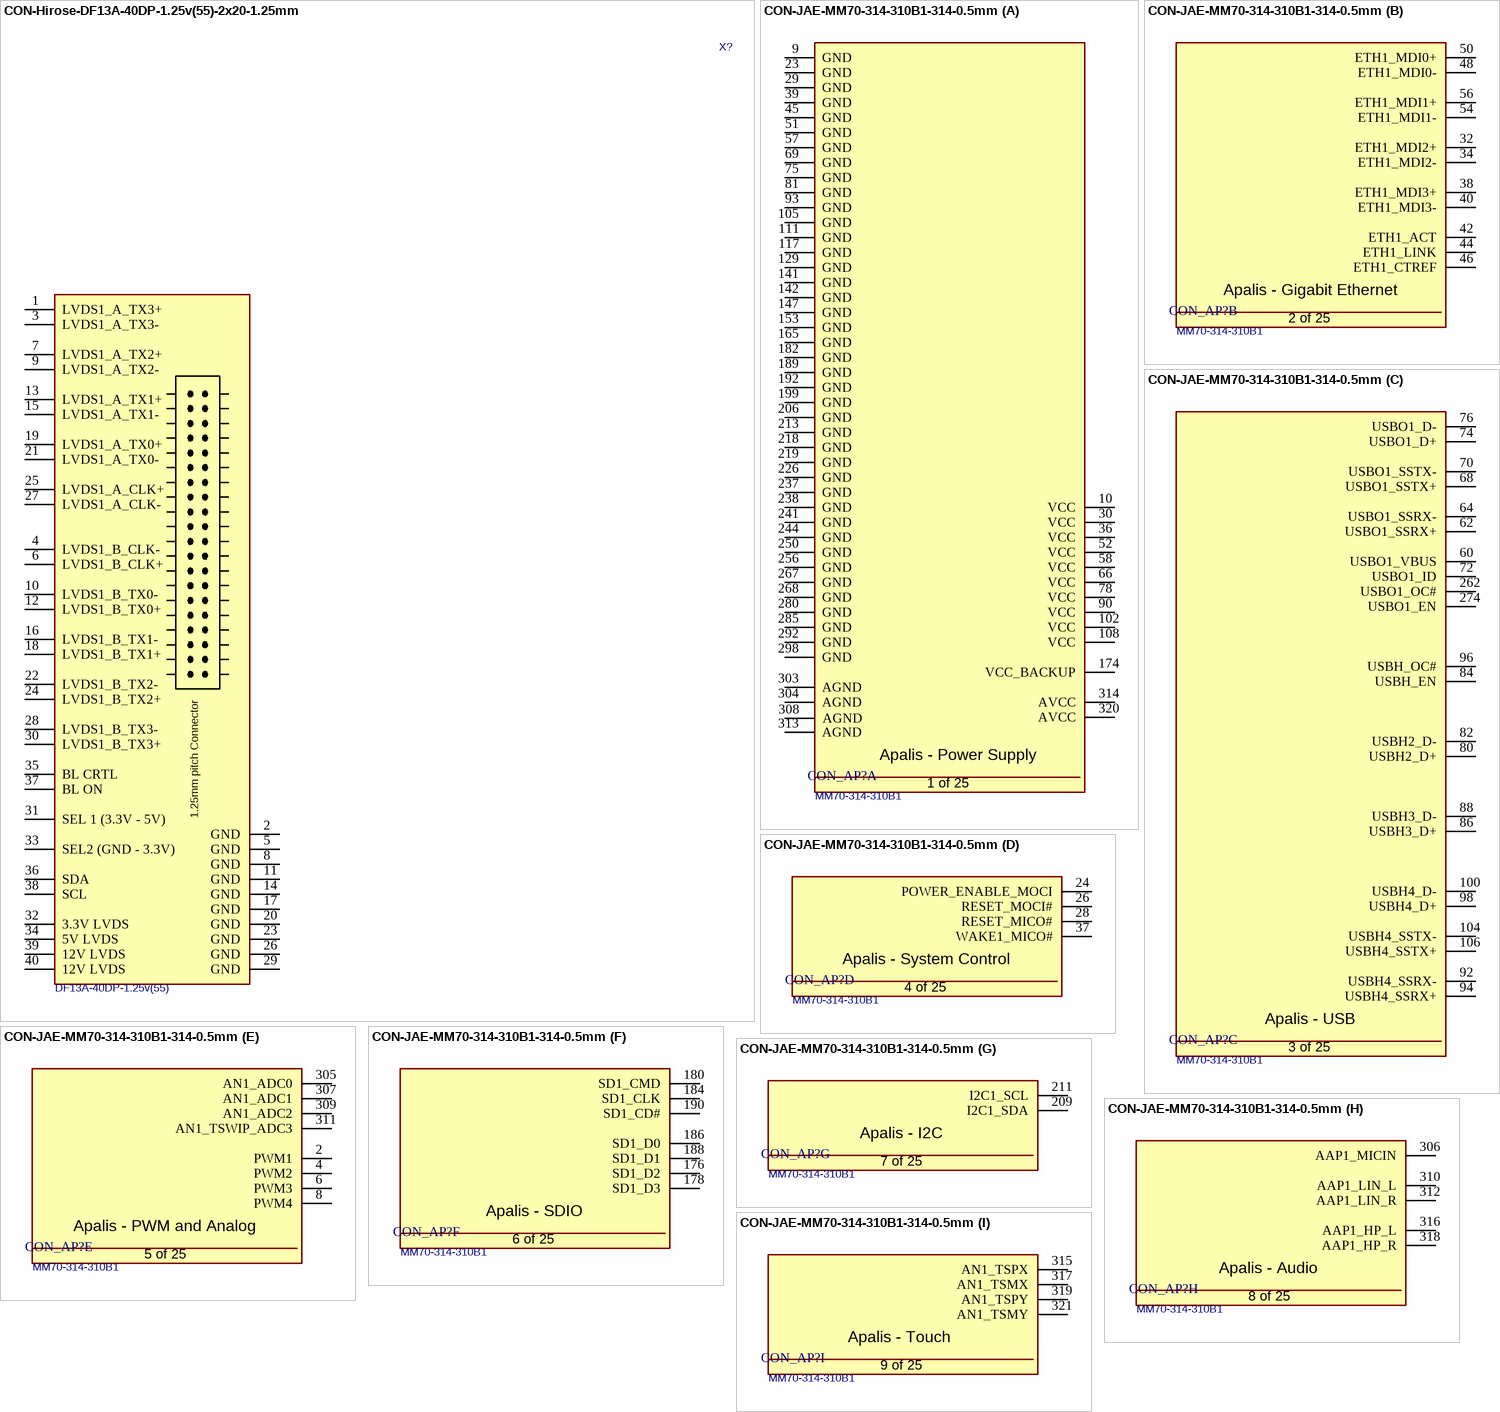
[diagram p5: symbols CON-Hirose-DF13A-40DP-1.25v(55)-2x20-1.25mm to CON-JAE-MM70-314-310B1-314-0.5mm]

## CON-Hirose-DF13A-40DP-1.25v(55)-2x20-1.25mm
designator X?, comment Manufacturer Part No.: DF13A-40DP-1.25v(55)  (hidden comment: CON-Hirose-DF13A-40DP-1.25v(55)-2x10-1mm)
LVDS Connector; Manufacturer Name: Hirose; No. of ways: 2x20; Pitch: 1.25mm
footprint T_HIROSE_DF13A-40DP-1.25V(55)
pins: 1 LVDS1_A_TX3+, 2 GND, 3 LVDS1_A_TX3-, 4 LVDS1_B_CLK-, 5 GND, 6 LVDS1_B_CLK+, 7 LVDS1_A_TX2+, 8 GND, 9 LVDS1_A_TX2-, 10 LVDS1_B_TX0-, 11 GND, 12 LVDS1_B_TX0+, 13 LVDS1_A_TX1+, 14 GND, 15 LVDS1_A_TX1-, 16 LVDS1_B_TX1-, 17 GND, 18 LVDS1_B_TX1+, 19 LVDS1_A_TX0+, 20 GND, 21 LVDS1_A_TX0-, 22 LVDS1_B_TX2-, 23 GND, 24 LVDS1_B_TX2+, 25 LVDS1_A_CLK+, 26 GND, 27 LVDS1_A_CLK-, 28 LVDS1_B_TX3-, 29 GND, 30 LVDS1_B_TX3+, 31 SEL 1 (3.3V - 5V), 32 3.3V LVDS, 33 SEL2 (GND - 3.3V), 34 5V LVDS, 35 BL CRTL, 36 SDA, 37 BL ON, 38 SCL, 39 12V LVDS, 40 12V LVDS
text: 1.25mm pitch Connector

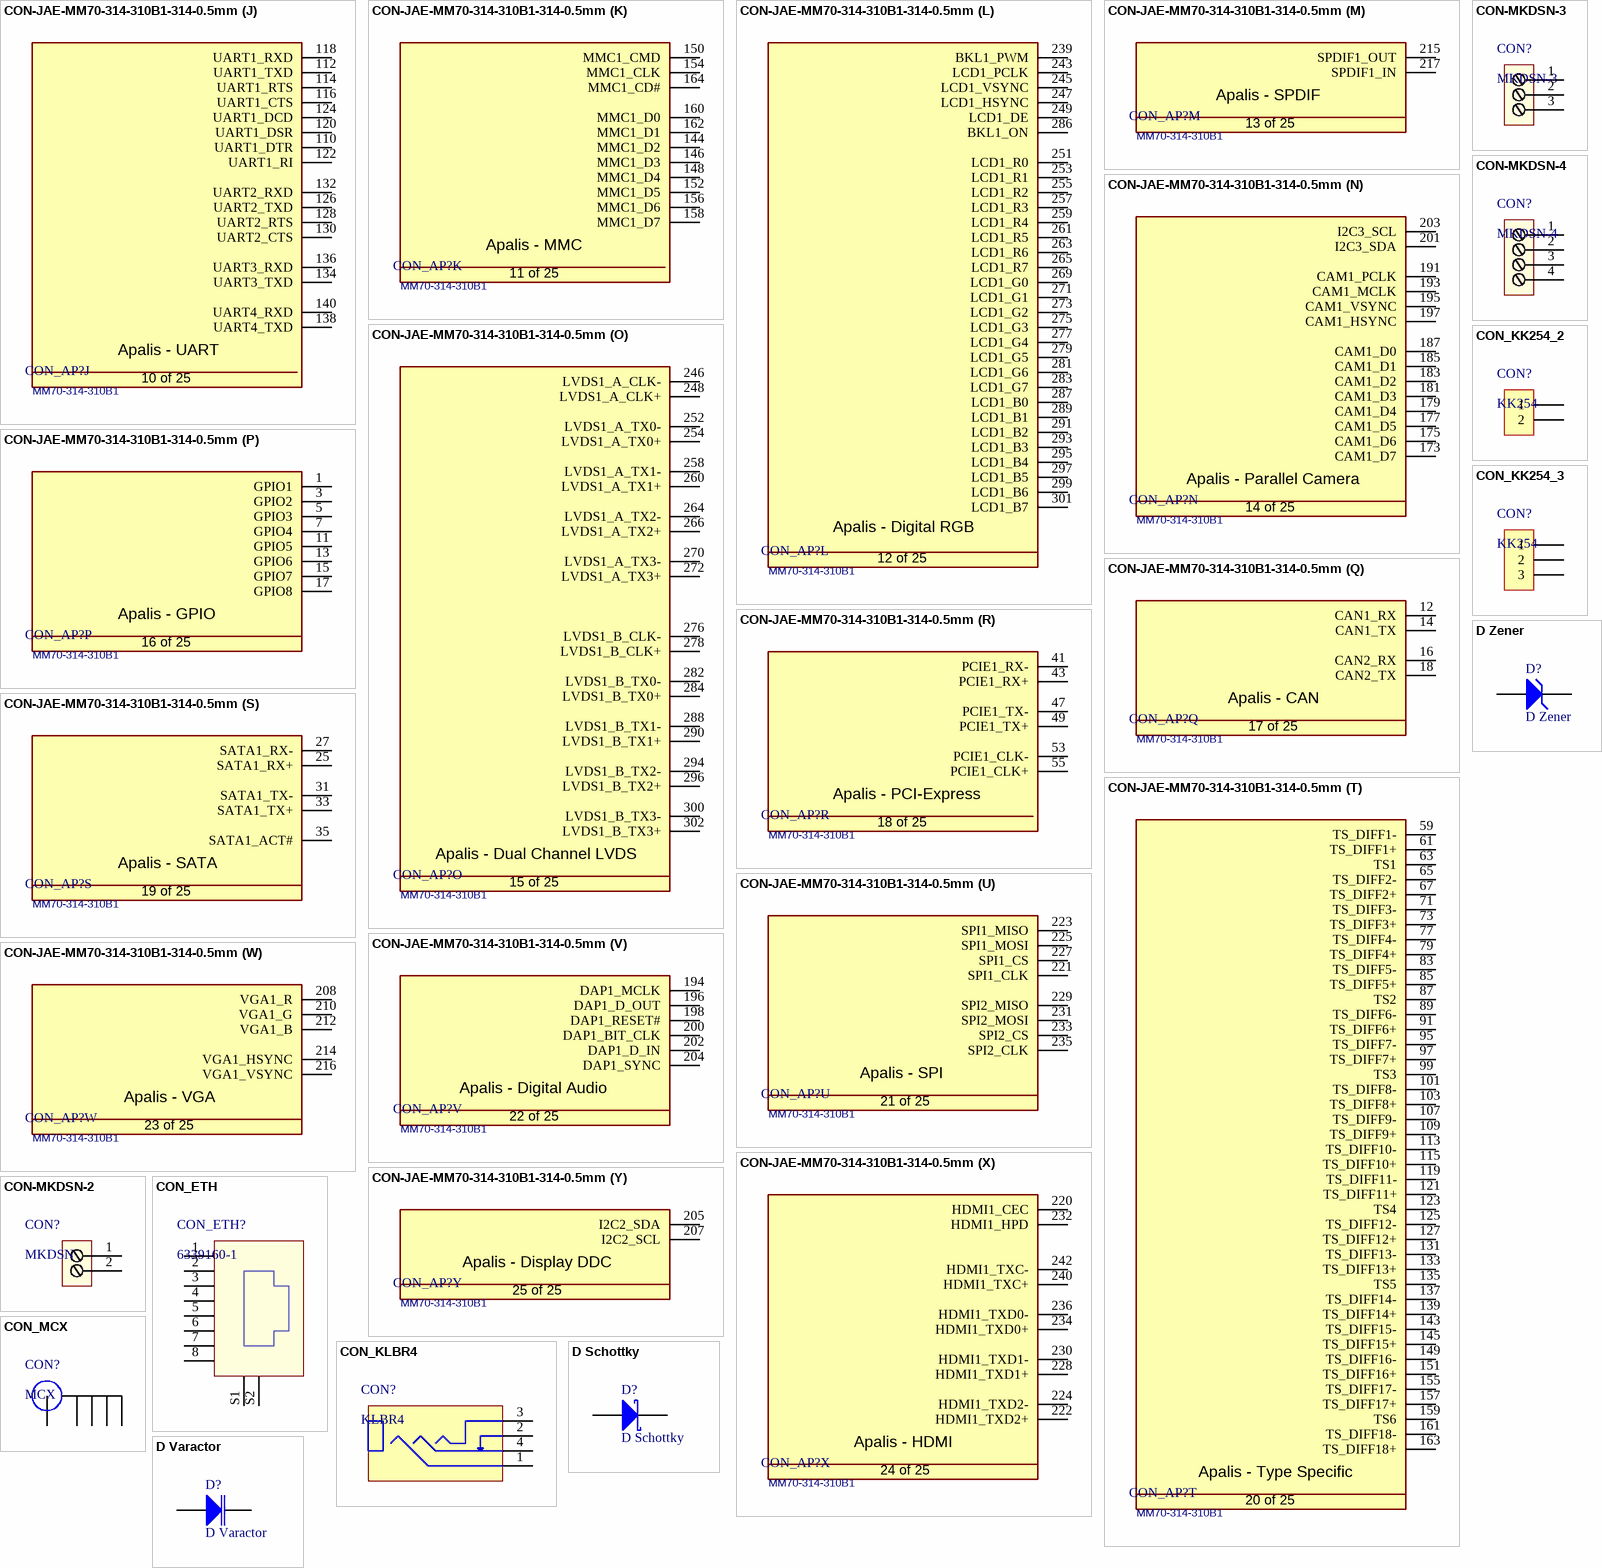
[diagram p6: symbols CON-JAE-MM70-314-310B1-314-0.5mm to D Zener]

## CON-JAE-MM70-314-310B1-314-0.5mm
designator CON_AP?, comment MM70-314-310B1
MXM3 Connector; Manufacturer Name: JAE; No. of ways: 314; Manufacturer Part No.: MM70-314-310B1
footprint T_JAE_MM70-314-310B1 (MXM 3.0 Connector)
part A pins: 9 GND, 10 VCC, 23 GND, 29 GND (power), 30 VCC, 36 VCC, 39 GND (power), 45 GND (power), 51 GND (power), 52 VCC, 57 GND (power), 58 VCC, 66 VCC, 69 GND (power), 75 GND (power), 78 VCC, 81 GND (power), 90 VCC, 93 GND (power), 102 VCC, 105 GND (power), 108 VCC, 111 GND (power), 117 GND (power), 129 GND (power), 141 GND (power), 142 GND (power), 147 GND (power), 153 GND (power), 165 GND (power), 174 VCC_BACKUP, 182 GND (power), 189 GND (power), 192 GND (power), 199 GND (power), 206 GND (power), 213 GND (power), 218 GND (power), 219 GND (power), 226 GND (power), 237 GND (power), 238 GND (power), 241 GND (power), 244 GND (power), 250 GND (power), 256 GND (power), 267 GND (power), 268 GND (power), 280 GND (power), 285 GND (power), 292 GND (power), 298 GND (power), 303 AGND (power), 304 AGND (power), 308 AGND (power), 313 AGND, 314 AVCC (power), 320 AVCC
part B pins: 32 ETH1_MDI2+, 34 ETH1_MDI2-, 38 ETH1_MDI3+, 40 ETH1_MDI3-, 42 ETH1_ACT, 44 ETH1_LINK, 46 ETH1_CTREF, 48 ETH1_MDI0-, 50 ETH1_MDI0+, 54 ETH1_MDI1-, 56 ETH1_MDI1+
part C pins: 60 USBO1_VBUS, 62 USBO1_SSRX+, 64 USBO1_SSRX-, 68 USBO1_SSTX+, 70 USBO1_SSTX-, 72 USBO1_ID, 74 USBO1_D+, 76 USBO1_D-, 80 USBH2_D+, 82 USBH2_D-, 84 USBH_EN, 86 USBH3_D+, 88 USBH3_D-, 92 USBH4_SSRX-, 94 USBH4_SSRX+, 96 USBH_OC#, 98 USBH4_D+, 100 USBH4_D-, 104 USBH4_SSTX-, 106 USBH4_SSTX+, 262 USBO1_OC#, 274 USBO1_EN
part D pins: 24 POWER_ENABLE_MOCI, 26 RESET_MOCI#, 28 RESET_MICO#, 37 WAKE1_MICO#
part E pins: 2 PWM1, 4 PWM2, 6 PWM3, 8 PWM4, 305 AN1_ADC0, 307 AN1_ADC1, 309 AN1_ADC2, 311 AN1_TSWIP_ADC3
part F pins: 176 SD1_D2, 178 SD1_D3, 180 SD1_CMD, 184 SD1_CLK, 186 SD1_D0, 188 SD1_D1, 190 SD1_CD#
part G pins: 209 I2C1_SDA, 211 I2C1_SCL
part H pins: 306 AAP1_MICIN, 310 AAP1_LIN_L, 312 AAP1_LIN_R, 316 AAP1_HP_L, 318 AAP1_HP_R
part I pins: 315 AN1_TSPX, 317 AN1_TSMX, 319 AN1_TSPY, 321 AN1_TSMY
part J pins: 110 UART1_DTR, 112 UART1_TXD, 114 UART1_RTS, 116 UART1_CTS, 118 UART1_RXD, 120 UART1_DSR, 122 UART1_RI, 124 UART1_DCD, 126 UART2_TXD, 128 UART2_RTS, 130 UART2_CTS, 132 UART2_RXD, 134 UART3_TXD, 136 UART3_RXD, 138 UART4_TXD, 140 UART4_RXD
part K pins: 144 MMC1_D2, 146 MMC1_D3, 148 MMC1_D4, 150 MMC1_CMD, 152 MMC1_D5, 154 MMC1_CLK, 156 MMC1_D6, 158 MMC1_D7, 160 MMC1_D0, 162 MMC1_D1, 164 MMC1_CD#
part L pins: 239 BKL1_PWM, 243 LCD1_PCLK, 245 LCD1_VSYNC, 247 LCD1_HSYNC, 249 LCD1_DE, 251 LCD1_R0, 253 LCD1_R1, 255 LCD1_R2, 257 LCD1_R3, 259 LCD1_R4, 261 LCD1_R5, 263 LCD1_R6, 265 LCD1_R7, 269 LCD1_G0, 271 LCD1_G1, 273 LCD1_G2, 275 LCD1_G3, 277 LCD1_G4, 279 LCD1_G5, 281 LCD1_G6, 283 LCD1_G7, 286 BKL1_ON, 287 LCD1_B0, 289 LCD1_B1, 291 LCD1_B2, 293 LCD1_B3, 295 LCD1_B4, 297 LCD1_B5, 299 LCD1_B6, 301 LCD1_B7
part M pins: 215 SPDIF1_OUT, 217 SPDIF1_IN
part N pins: 173 CAM1_D7, 175 CAM1_D6, 177 CAM1_D5, 179 CAM1_D4, 181 CAM1_D3, 183 CAM1_D2, 185 CAM1_D1, 187 CAM1_D0, 191 CAM1_PCLK, 193 CAM1_MCLK, 195 CAM1_VSYNC, 197 CAM1_HSYNC, 201 I2C3_SDA, 203 I2C3_SCL
part O pins: 246 LVDS1_A_CLK-, 248 LVDS1_A_CLK+, 252 LVDS1_A_TX0-, 254 LVDS1_A_TX0+, 258 LVDS1_A_TX1-, 260 LVDS1_A_TX1+, 264 LVDS1_A_TX2-, 266 LVDS1_A_TX2+, 270 LVDS1_A_TX3-, 272 LVDS1_A_TX3+, 276 LVDS1_B_CLK-, 278 LVDS1_B_CLK+, 282 LVDS1_B_TX0-, 284 LVDS1_B_TX0+, 288 LVDS1_B_TX1-, 290 LVDS1_B_TX1+, 294 LVDS1_B_TX2-, 296 LVDS1_B_TX2+, 300 LVDS1_B_TX3-, 302 LVDS1_B_TX3+
part P pins: 1 GPIO1, 3 GPIO2, 5 GPIO3, 7 GPIO4, 11 GPIO5, 13 GPIO6, 15 GPIO7, 17 GPIO8
part Q pins: 12 CAN1_RX, 14 CAN1_TX, 16 CAN2_RX, 18 CAN2_TX
part R pins: 41 PCIE1_RX-, 43 PCIE1_RX+, 47 PCIE1_TX-, 49 PCIE1_TX+, 53 PCIE1_CLK-, 55 PCIE1_CLK+
part S pins: 25 SATA1_RX+, 27 SATA1_RX-, 31 SATA1_TX-, 33 SATA1_TX+, 35 SATA1_ACT#
part T pins: 59 TS_DIFF1-, 61 TS_DIFF1+, 63 TS1, 65 TS_DIFF2-, 67 TS_DIFF2+, 71 TS_DIFF3-, 73 TS_DIFF3+, 77 TS_DIFF4-, 79 TS_DIFF4+, 83 TS_DIFF5-, 85 TS_DIFF5+, 87 TS2, 89 TS_DIFF6-, 91 TS_DIFF6+, 95 TS_DIFF7-, 97 TS_DIFF7+, 99 TS3, 101 TS_DIFF8-, 103 TS_DIFF8+, 107 TS_DIFF9-, 109 TS_DIFF9+, 113 TS_DIFF10-, 115 TS_DIFF10+, 119 TS_DIFF11-, 121 TS_DIFF11+, 123 TS4, 125 TS_DIFF12-, 127 TS_DIFF12+, 131 TS_DIFF13-, 133 TS_DIFF13+, 135 TS5, 137 TS_DIFF14-, 139 TS_DIFF14+, 143 TS_DIFF15-, 145 TS_DIFF15+, 149 TS_DIFF16-, 151 TS_DIFF16+, 155 TS_DIFF17-, 157 TS_DIFF17+, 159 TS6, 161 TS_DIFF18-, 163 TS_DIFF18+
part U pins: 221 SPI1_CLK, 223 SPI1_MISO, 225 SPI1_MOSI, 227 SPI1_CS, 229 SPI2_MISO, 231 SPI2_MOSI, 233 SPI2_CS, 235 SPI2_CLK
part V pins: 194 DAP1_MCLK, 196 DAP1_D_OUT, 198 DAP1_RESET#, 200 DAP1_BIT_CLK, 202 DAP1_D_IN, 204 DAP1_SYNC
part W pins: 208 VGA1_R, 210 VGA1_G, 212 VGA1_B, 214 VGA1_HSYNC, 216 VGA1_VSYNC
part X pins: 220 HDMI1_CEC, 222 HDMI1_TXD2+, 224 HDMI1_TXD2-, 228 HDMI1_TXD1+, 230 HDMI1_TXD1-, 232 HDMI1_HPD, 234 HDMI1_TXD0+, 236 HDMI1_TXD0-, 240 HDMI1_TXC+, 242 HDMI1_TXC-
part Y pins: 205 I2C2_SDA, 207 I2C2_SCL
part A text: Apalis - Power Supply; 1 of 25
part B text: Apalis - Gigabit Ethernet; 2 of 25
part C text: Apalis - USB; 3 of 25
part D text: Apalis - System Control; 4 of 25
part E text: Apalis - PWM and Analog; 5 of 25
part F text: Apalis - SDIO; 6 of 25
part G text: Apalis - I2C; 7 of 25
part H text: Apalis - Audio; 8 of 25
part I text: Apalis - Touch; 9 of 25
part J text: Apalis - UART; 10 of 25
part K text: Apalis - MMC; 11 of 25
part L text: Apalis - Digital RGB; 12 of 25
part M text: Apalis - SPDIF; 13 of 25
part N text: Apalis - Parallel Camera; 14 of 25
part O text: Apalis - Dual Channel LVDS; 15 of 25
part P text: Apalis - GPIO; 16 of 25
part Q text: Apalis - CAN; 17 of 25
part R text: Apalis - PCI-Express; 18 of 25
part S text: Apalis - SATA; 19 of 25
part T text: Apalis - Type Specific; 20 of 25
part U text: Apalis - SPI; 21 of 25
part V text: Apalis - Digital Audio; 22 of 25
part W text: Apalis - VGA; 23 of 25
part X text: Apalis - HDMI; 24 of 25
part Y text: Apalis - Display DDC; 25 of 25

## CON-MKDSN-2
designator CON?, comment MKDSN
footprint MKDSN-2 (PHOENIX CONTACT  MKDSN 2,5/ 2-5,08  1888687)
pins: 1, 2

## CON-MKDSN-3
designator CON?, comment MKDSN-3
footprint MKDSN-3
pins: 1, 2, 3

## CON-MKDSN-4
designator CON?, comment MKDSN-4
footprint MKDSN-4
pins: 1, 2, 3, 4

## CON_ETH
designator CON_ETH?, comment 6339160-1
footprint 6339160-1 (Ethernet connector)
pins: 1, 2, 3, 4, 5, 6, 7, 8, S1, S2

## CON_KK254_2
designator CON?, comment KK254
Molex KK 254
footprint KK254_2 (Molex KK 254)
pins: 1 (power), 2 (power)

## CON_KK254_3
designator CON?, comment KK254
Molex KK 254
footprint KK254_3 (Molex KK 254)
pins: 1 (power), 2 (power), 3 (power)

## CON_KLBR4
designator CON?, comment KLBR4
Lumberg KLBR4
footprint KLBR4 (Lumberg Jack Connector)
pins: 1 S, 2 B, 3 T, 4 R

## CON_MCX
designator CON?, comment MCX
footprint CON_MCX (mcx coaxial conector)
pins: 0, 1, 2, 3, 4

## D Schottky
designator D?
Schottky Diode; Published: 8-Jun-2000; LatestRevisionDate: 17-Jul-2002; LatestRevisionNote: Re-released for DXP Platform.; PackageReference: SMB; Publisher: Altium Limited; PackageDescription: DO-214-AA/SMB; 2 C-Bend Leads; Body 5.3 x 3.6 mm, inc. leads (LxW); Code_JEDEC: DO-214-AA
footprint minimelf
footprint POWERD5 (Diode INC. Diode)
footprint SOD123; pin to pad 1>A 2>K
footprint D_SMA (Molded Diode, 2-Leads, Body 4,3x2,7mm, IPC Medium Density)
footprint D_SMB (DO-214-AA/SMB; 2 C-Bend Leads; Body 5.3 x 3.6 mm, inc. leads (LxW))
footprint D_SMC (DO-214-AB/SMC; 2 C-Bend Leads; Body 7.9 x 5.9 mm, inc. leads (LxW))
pins: 1 A, 2 K

## D Varactor
designator D?
Variable Capacitance Diode; Note: Pin 2 is not connected and not drawn.; Published: 8-Jun-2000; LatestRevisionDate: 29-May-2009; LatestRevisionNote: IPC-7351 Footprint Added.; DatasheetVersion: Jan-1998; PackageVersion: 1996; PackageReference: SOT23A; Publisher: Altium Limited; PackageDescription: 3-Pin SOT-23 Package 0.95 mm Pitch, 2.3 mm Lead Span - Reverse Pinning; ComponentLink1Description: Manufacturer Link; ComponentLink1URL: http://www.zetex.com/
footprint SOT23-3
pins: 1 K, 3 A

## D Zener
designator D?
Zener Diode; Published: 8-Jun-2000; LatestRevisionDate: 17-Jul-2002; LatestRevisionNote: Re-released for DXP Platform.; PackageReference: DIODE-0.7; Publisher: Altium Limited; PackageDescription: Diode, Thru-Hole; 2 Leads; 0.7 in Pin Spacing
footprint D_SMB (DO-214-AA/SMB; 2 C-Bend Leads; Body 5.3 x 3.6 mm, inc. leads (LxW))
pins: 1 A, 2 K

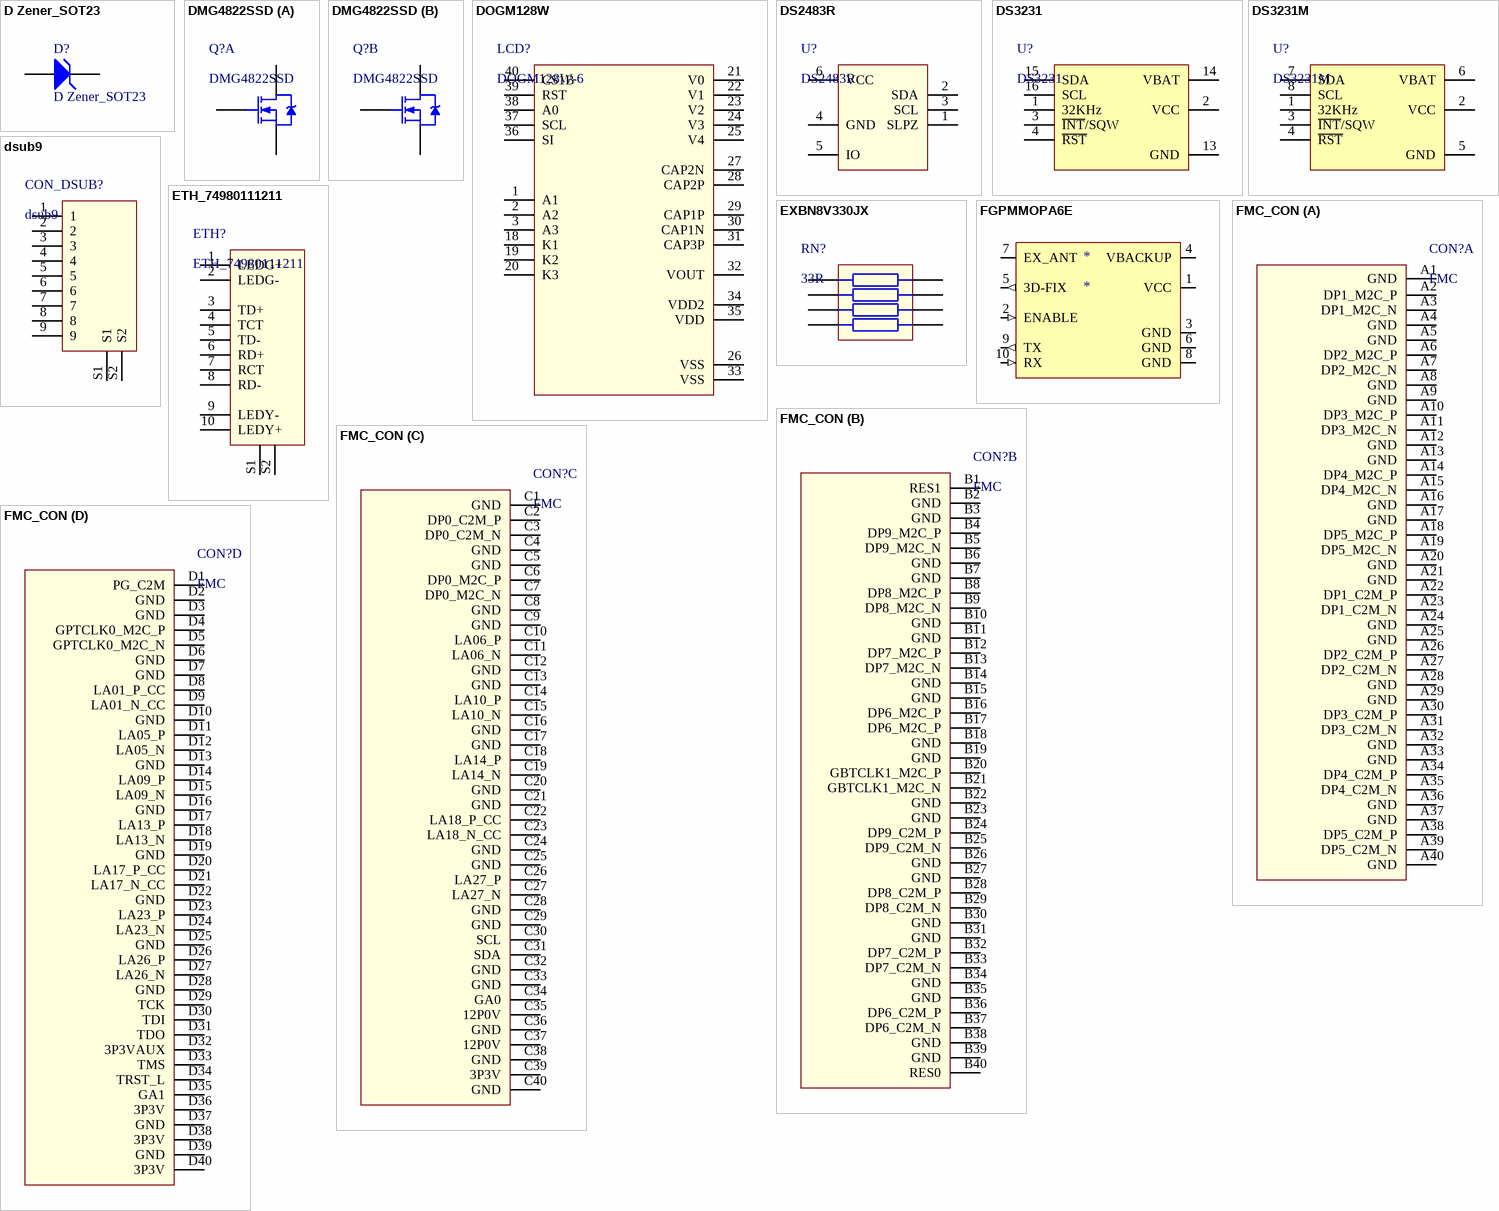
[diagram p7: symbols D Zener_SOT23 to FMC_CON]

## D Zener_SOT23
designator D?
Zener Diode, SOT23; Published: 8-Jun-2000; LatestRevisionDate: 17-Jul-2002; LatestRevisionNote: Re-released for DXP Platform.; PackageReference: DIODE-0.7; Publisher: Altium Limited; PackageDescription: Diode, Thru-Hole; 2 Leads; 0.7 in Pin Spacing
signal-integrity model D Zener
footprint SOT23-3
pins: 1 A, 3 K

## DMG4822SSD
designator Q?
footprint SOIC8
part A pins: 3 S1, 4 G1, 5 D1, 6 D1
part B pins: 1 S2, 2 G2, 7 D2, 8 D2

## DOGM128W
designator LCD?, comment DOGM128W-6
footprint DOGM128W
pins: 1 A1, 2 A2, 3 A3, 18 K1, 19 K2, 20 K3, 21 V0, 22 V1, 23 V2, 24 V3, 25 V4, 26 VSS, 27 CAP2N, 28 CAP2P, 29 CAP1P, 30 CAP1N, 31 CAP3P, 32 VOUT, 33 VSS, 34 VDD2, 35 VDD, 36 SI, 37 SCL, 38 A0, 39 RST, 40 CS1B

## DS2483R
designator U?
I2C to OW Bridge
footprint SOT23-6 (SOT23, 6-Leads, Body 3x1.75mm, Pitch 0.95mm, IPC Medium Density)
pins: 1 SLPZ, 2 SDA, 3 SCL, 4 GND, 5 IO, 6 VCC

## DS3231
designator U?
Extremely Accurate I2C-Integrated  RTC/TCXO/Crystal
footprint SOIC16_300
pins: 1 32KHz, 2 VCC, 3 ~{INT}/SQW, 4 ~{RST}, 13 GND, 14 VBAT, 15 SDA, 16 SCL

## DS3231M
designator U?
±5ppm, I  2  C Real-Time Clock with SRAM, MEMS
footprint SO-8
pins: 1 32KHz, 2 VCC, 3 ~{INT}/SQW, 4 ~{RST}, 5 GND, 6 VBAT, 7 SDA, 8 SCL

## dsub9
designator CON_DSUB?
footprint DSUB9_RA (DSUB9)
pins: 1, 2, 3, 4, 5, 6, 7, 8, 9, S1, S2

## ETH_74980111211
designator ETH?
WURTH Ethernet connector 74980111211
footprint 74980111211 (Wurth Ethernet Connector with magnetics)
pins: 1 LEDG+, 2 LEDG-, 3 TD+, 4 TCT, 5 TD-, 6 RD+, 7 RCT, 8 RD-, 9 LEDY-, 10 LEDY+, S1, S2

## EXBN8V330JX
designator RN?, comment 33R
footprint EXBN8V330JX (Chip Array, Flat, 8-Leads, Pitch 0,50mm,  Body 2,00x1,00mm,  IPC Medium Density)
pins: 1, 2, 3, 4, 5, 6, 7, 8

## FGPMMOPA6E
designator *
footprint GPS_FGPMMOPA6E (GPS MediaTek FGPMMOPA6E (Maritex))
pins: 1 VCC, 2 ENABLE (in), 3 GND, 4 VBACKUP, 5 3D-FIX (out), 6 GND, 7 EX_ANT, 8 GND, 9 TX (out), 10 RX (in)

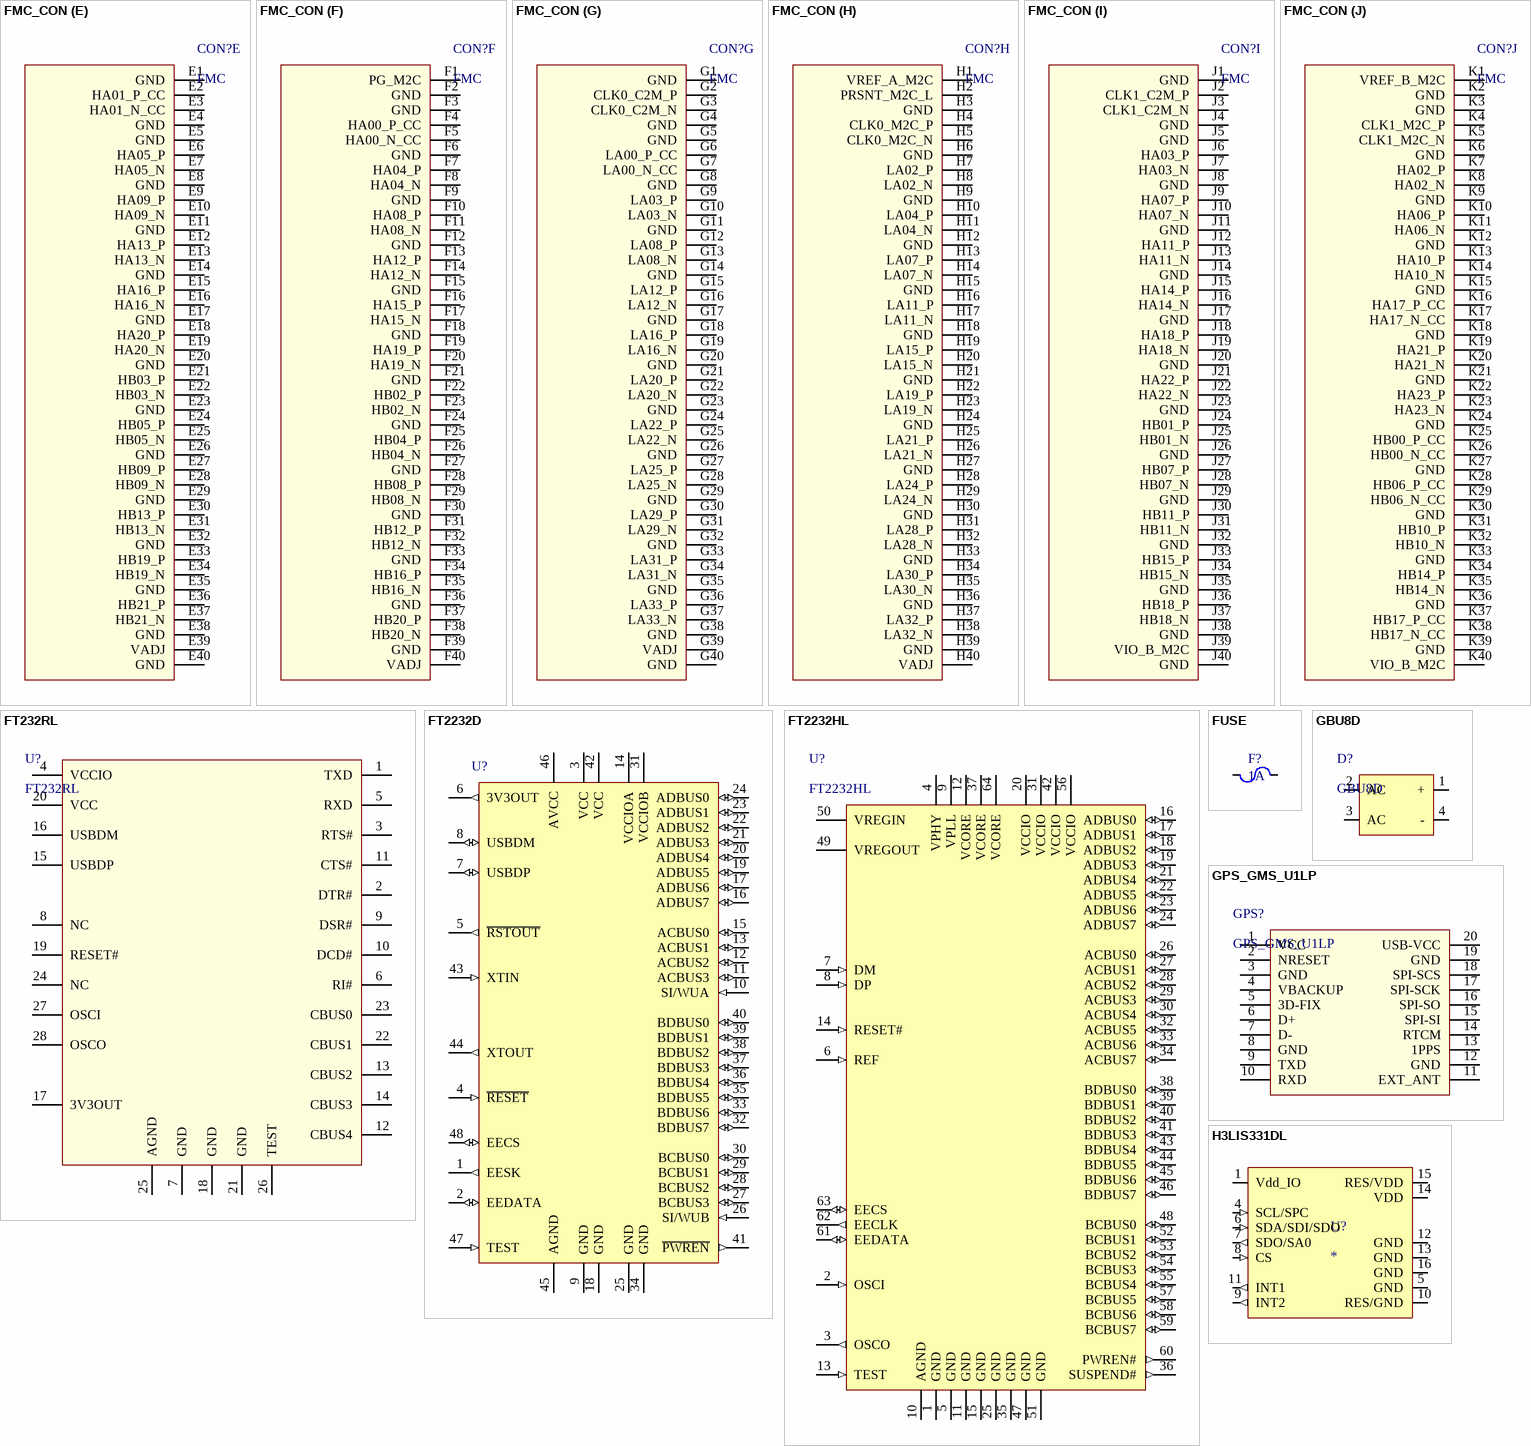
[diagram p8: symbols FMC_CON to H3LIS331DL]

## FMC_CON
designator CON?, comment FMC
footprint FMC
part A pins: A1 GND, A2 DP1_M2C_P, A3 DP1_M2C_N, A4 GND, A5 GND, A6 DP2_M2C_P, A7 DP2_M2C_N, A8 GND, A9 GND, A10 DP3_M2C_P, A11 DP3_M2C_N, A12 GND, A13 GND, A14 DP4_M2C_P, A15 DP4_M2C_N, A16 GND, A17 GND, A18 DP5_M2C_P, A19 DP5_M2C_N, A20 GND, A21 GND, A22 DP1_C2M_P, A23 DP1_C2M_N, A24 GND, A25 GND, A26 DP2_C2M_P, A27 DP2_C2M_N, A28 GND, A29 GND, A30 DP3_C2M_P, A31 DP3_C2M_N, A32 GND, A33 GND, A34 DP4_C2M_P, A35 DP4_C2M_N, A36 GND, A37 GND, A38 DP5_C2M_P, A39 DP5_C2M_N, A40 GND
part B pins: B1 RES1, B2 GND, B3 GND, B4 DP9_M2C_P, B5 DP9_M2C_N, B6 GND, B7 GND, B8 DP8_M2C_P, B9 DP8_M2C_N, B10 GND, B11 GND, B12 DP7_M2C_P, B13 DP7_M2C_N, B14 GND, B15 GND, B16 DP6_M2C_P, B17 DP6_M2C_P, B18 GND, B19 GND, B20 GBTCLK1_M2C_P, B21 GBTCLK1_M2C_N, B22 GND, B23 GND, B24 DP9_C2M_P, B25 DP9_C2M_N, B26 GND, B27 GND, B28 DP8_C2M_P, B29 DP8_C2M_N, B30 GND, B31 GND, B32 DP7_C2M_P, B33 DP7_C2M_N, B34 GND, B35 GND, B36 DP6_C2M_P, B37 DP6_C2M_N, B38 GND, B39 GND, B40 RES0
part C pins: C1 GND, C2 DP0_C2M_P, C3 DP0_C2M_N, C4 GND, C5 GND, C6 DP0_M2C_P, C7 DP0_M2C_N, C8 GND, C9 GND, C10 LA06_P, C11 LA06_N, C12 GND, C13 GND, C14 LA10_P, C15 LA10_N, C16 GND, C17 GND, C18 LA14_P, C19 LA14_N, C20 GND, C21 GND, C22 LA18_P_CC, C23 LA18_N_CC, C24 GND, C25 GND, C26 LA27_P, C27 LA27_N, C28 GND, C29 GND, C30 SCL, C31 SDA, C32 GND, C33 GND, C34 GA0, C35 12P0V, C36 GND, C37 12P0V, C38 GND, C39 3P3V, C40 GND
part D pins: D1 PG_C2M, D2 GND, D3 GND, D4 GPTCLK0_M2C_P, D5 GPTCLK0_M2C_N, D6 GND, D7 GND, D8 LA01_P_CC, D9 LA01_N_CC, D10 GND, D11 LA05_P, D12 LA05_N, D13 GND, D14 LA09_P, D15 LA09_N, D16 GND, D17 LA13_P, D18 LA13_N, D19 GND, D20 LA17_P_CC, D21 LA17_N_CC, D22 GND, D23 LA23_P, D24 LA23_N, D25 GND, D26 LA26_P, D27 LA26_N, D28 GND, D29 TCK, D30 TDI, D31 TDO, D32 3P3VAUX, D33 TMS, D34 TRST_L, D35 GA1, D36 3P3V, D37 GND, D38 3P3V, D39 GND, D40 3P3V
part E pins: E1 GND, E2 HA01_P_CC, E3 HA01_N_CC, E4 GND, E5 GND, E6 HA05_P, E7 HA05_N, E8 GND, E9 HA09_P, E10 HA09_N, E11 GND, E12 HA13_P, E13 HA13_N, E14 GND, E15 HA16_P, E16 HA16_N, E17 GND, E18 HA20_P, E19 HA20_N, E20 GND, E21 HB03_P, E22 HB03_N, E23 GND, E24 HB05_P, E25 HB05_N, E26 GND, E27 HB09_P, E28 HB09_N, E29 GND, E30 HB13_P, E31 HB13_N, E32 GND, E33 HB19_P, E34 HB19_N, E35 GND, E36 HB21_P, E37 HB21_N, E38 GND, E39 VADJ, E40 GND
part F pins: F1 PG_M2C, F2 GND, F3 GND, F4 HA00_P_CC, F5 HA00_N_CC, F6 GND, F7 HA04_P, F8 HA04_N, F9 GND, F10 HA08_P, F11 HA08_N, F12 GND, F13 HA12_P, F14 HA12_N, F15 GND, F16 HA15_P, F17 HA15_N, F18 GND, F19 HA19_P, F20 HA19_N, F21 GND, F22 HB02_P, F23 HB02_N, F24 GND, F25 HB04_P, F26 HB04_N, F27 GND, F28 HB08_P, F29 HB08_N, F30 GND, F31 HB12_P, F32 HB12_N, F33 GND, F34 HB16_P, F35 HB16_N, F36 GND, F37 HB20_P, F38 HB20_N, F39 GND, F40 VADJ
part G pins: G1 GND, G2 CLK0_C2M_P, G3 CLK0_C2M_N, G4 GND, G5 GND, G6 LA00_P_CC, G7 LA00_N_CC, G8 GND, G9 LA03_P, G10 LA03_N, G11 GND, G12 LA08_P, G13 LA08_N, G14 GND, G15 LA12_P, G16 LA12_N, G17 GND, G18 LA16_P, G19 LA16_N, G20 GND, G21 LA20_P, G22 LA20_N, G23 GND, G24 LA22_P, G25 LA22_N, G26 GND, G27 LA25_P, G28 LA25_N, G29 GND, G30 LA29_P, G31 LA29_N, G32 GND, G33 LA31_P, G34 LA31_N, G35 GND, G36 LA33_P, G37 LA33_N, G38 GND, G39 VADJ, G40 GND
part H pins: H1 VREF_A_M2C, H2 PRSNT_M2C_L, H3 GND, H4 CLK0_M2C_P, H5 CLK0_M2C_N, H6 GND, H7 LA02_P, H8 LA02_N, H9 GND, H10 LA04_P, H11 LA04_N, H12 GND, H13 LA07_P, H14 LA07_N, H15 GND, H16 LA11_P, H17 LA11_N, H18 GND, H19 LA15_P, H20 LA15_N, H21 GND, H22 LA19_P, H23 LA19_N, H24 GND, H25 LA21_P, H26 LA21_N, H27 GND, H28 LA24_P, H29 LA24_N, H30 GND, H31 LA28_P, H32 LA28_N, H33 GND, H34 LA30_P, H35 LA30_N, H36 GND, H37 LA32_P, H38 LA32_N, H39 GND, H40 VADJ
part I pins: J1 GND, J2 CLK1_C2M_P, J3 CLK1_C2M_N, J4 GND, J5 GND, J6 HA03_P, J7 HA03_N, J8 GND, J9 HA07_P, J10 HA07_N, J11 GND, J12 HA11_P, J13 HA11_N, J14 GND, J15 HA14_P, J16 HA14_N, J17 GND, J18 HA18_P, J19 HA18_N, J20 GND, J21 HA22_P, J22 HA22_N, J23 GND, J24 HB01_P, J25 HB01_N, J26 GND, J27 HB07_P, J28 HB07_N, J29 GND, J30 HB11_P, J31 HB11_N, J32 GND, J33 HB15_P, J34 HB15_N, J35 GND, J36 HB18_P, J37 HB18_N, J38 GND, J39 VIO_B_M2C, J40 GND
part J pins: K1 VREF_B_M2C, K2 GND, K3 GND, K4 CLK1_M2C_P, K5 CLK1_M2C_N, K6 GND, K7 HA02_P, K8 HA02_N, K9 GND, K10 HA06_P, K11 HA06_N, K12 GND, K13 HA10_P, K14 HA10_N, K15 GND, K16 HA17_P_CC, K17 HA17_N_CC, K18 GND, K19 HA21_P, K20 HA21_N, K21 GND, K22 HA23_P, K23 HA23_N, K24 GND, K25 HB00_P_CC, K26 HB00_N_CC, K27 GND, K28 HB06_P_CC, K29 HB06_N_CC, K30 GND, K31 HB10_P, K32 HB10_N, K33 GND, K34 HB14_P, K35 HB14_N, K36 GND, K37 HB17_P_CC, K38 HB17_N_CC, K39 GND, K40 VIO_B_M2C

## FT232RL
designator U?
9.62500000000
footprint SSOP28-10 (SOP, 28-Leads, Body 10,5x5,6mm (max), Pitch 0,65mm)
pins: 1 TXD, 2 DTR#, 3 RTS#, 4 VCCIO, 5 RXD, 6 RI#, 7 GND, 8 NC, 9 DSR#, 10 DCD#, 11 CTS#, 12 CBUS4, 13 CBUS2, 14 CBUS3, 15 USBDP, 16 USBDM, 17 3V3OUT, 18 GND, 19 RESET#, 20 VCC, 21 GND, 22 CBUS1, 23 CBUS0, 24 NC, 25 AGND, 26 TEST, 27 OSCI, 28 OSCO

## FT2232D
designator U?
Dual USB UART/FIFO Chip, LQFP-48; DatasheetVersion: ver 2.05, Apr-2011; PackageVersion: 2010; PackageReference: LQFP-48; PackageDescription: 48-Pin Thin Quad Flat Pack 0.5 mm Pitch; ComponentLink1Description: Manufacturer URL; ComponentLink1URL: http://www.ftdichip.com/; ComponentLink2Description: Datasheet; ComponentLink2URL: http://www.ftdichip.com/Support/Documents/DataSheets/ICs/DS_FT2232D.pdf
footprint LQFP48 (Thin QFP, 48-Leads, Body 7x7mm, Pitch 0.5mm, IPC High Density)
pins: 1 EESK (out), 2 EEDATA (io), 3 VCC (power), 4 ~{RESET} (in), 5 ~{RSTOUT} (out), 6 3V3OUT (out), 7 USBDP (io), 8 USBDM (io), 9 GND (power), 10 SI/WUA (in), 11 ACBUS3 (io), 12 ACBUS2 (io), 13 ACBUS1 (io), 14 VCCIOA (power), 15 ACBUS0 (io), 16 ADBUS7 (io), 17 ADBUS6 (io), 18 GND (power), 19 ADBUS5 (io), 20 ADBUS4 (io), 21 ADBUS3 (io), 22 ADBUS2 (io), 23 ADBUS1 (io), 24 ADBUS0 (io), 25 GND (power), 26 SI/WUB (in), 27 BCBUS3 (io), 28 BCBUS2 (io), 29 BCBUS1 (io), 30 BCBUS0 (io), 31 VCCIOB (power), 32 BDBUS7 (io), 33 BDBUS6 (io), 34 GND (power), 35 BDBUS5 (io), 36 BDBUS4 (io), 37 BDBUS3 (io), 38 BDBUS2 (io), 39 BDBUS1 (io), 40 BDBUS0 (io), 41 ~{PWREN} (out), 42 VCC (power), 43 XTIN (in), 44 XTOUT (out), 45 AGND (power), 46 AVCC (power), 47 TEST (in), 48 EECS (io)

## FT2232HL
designator U?
Dual High Speed USB To Multipurpose UART/FIFO IC, 64-pin LQFP, Tray
footprint LQFP64 (Thin QFP, 64-Leads, Body 10x10mm, Pitch 0.5mm, IPC Medium Density)
pins: 1 GND (power), 2 OSCI (in), 3 OSCO (out), 4 VPHY (power), 5 GND (power), 6 REF (in), 7 DM (in), 8 DP (in), 9 VPLL (power), 10 AGND (power), 11 GND (power), 12 VCORE (power), 13 TEST (in), 14 RESET# (in), 15 GND (power), 16 ADBUS0 (io), 17 ADBUS1 (io), 18 ADBUS2 (io), 19 ADBUS3 (io), 20 VCCIO (power), 21 ADBUS4 (io), 22 ADBUS5 (io), 23 ADBUS6 (io), 24 ADBUS7 (io), 25 GND (power), 26 ACBUS0 (io), 27 ACBUS1 (io), 28 ACBUS2 (io), 29 ACBUS3 (io), 30 ACBUS4 (io), 31 VCCIO (power), 32 ACBUS5 (io), 33 ACBUS6 (io), 34 ACBUS7 (io), 35 GND (power), 36 SUSPEND# (out), 37 VCORE (power), 38 BDBUS0 (io), 39 BDBUS1 (io), 40 BDBUS2 (io), 41 BDBUS3 (io), 42 VCCIO (power), 43 BDBUS4 (io), 44 BDBUS5 (io), 45 BDBUS6 (io), 46 BDBUS7 (io), 47 GND (power), 48 BCBUS0 (io), 49 VREGOUT (power), 50 VREGIN (power), 51 GND (power), 52 BCBUS1 (io), 53 BCBUS2 (io), 54 BCBUS3 (io), 55 BCBUS4 (io), 56 VCCIO (power), 57 BCBUS5 (io), 58 BCBUS6 (io), 59 BCBUS7 (io), 60 PWREN# (out), 61 EEDATA (io), 62 EECLK (out), 63 EECS (io), 64 VCORE (power)

## FUSE
designator F?, comment 1A
VALUE: 1A
footprint 1210_FUSE
footprint 1206_FUSE (3216(metric))
pins: 1, 2

## GBU8D
designator D?
8A Bridge Rectidiers
footprint GBU8
pins: 1 +, 2 AC, 3 AC, 4 -

## GPS_GMS_U1LP
designator GPS?
footprint GPS_GMS_U1LP (GlobalTop GPS receiver)
pins: 1 VCC, 2 NRESET, 3 GND, 4 VBACKUP, 5 3D-FIX, 6 D+, 7 D-, 8 GND, 9 TXD, 10 RXD, 11 EXT_ANT, 12 GND, 13 1PPS, 14 RTCM, 15 SPI-SI, 16 SPI-SO, 17 SPI-SCK, 18 SPI-SCS, 19 GND, 20 USB-VCC

## H3LIS331DL
designator U?
footprint LGA16-3X3X1_N (PQFN, 16-Leads, Body 3x3mm, Pitch 0.5mm, IPC Medium Density)
pins: 1 Vdd_IO, 4 SCL/SPC (in), 5 GND, 6 SDA/SDI/SDO (in), 7 SDO/SA0 (out), 8 CS (in), 9 INT2 (out), 10 RES/GND, 11 INT1 (out), 12 GND, 13 GND, 14 VDD, 15 RES/VDD, 16 GND

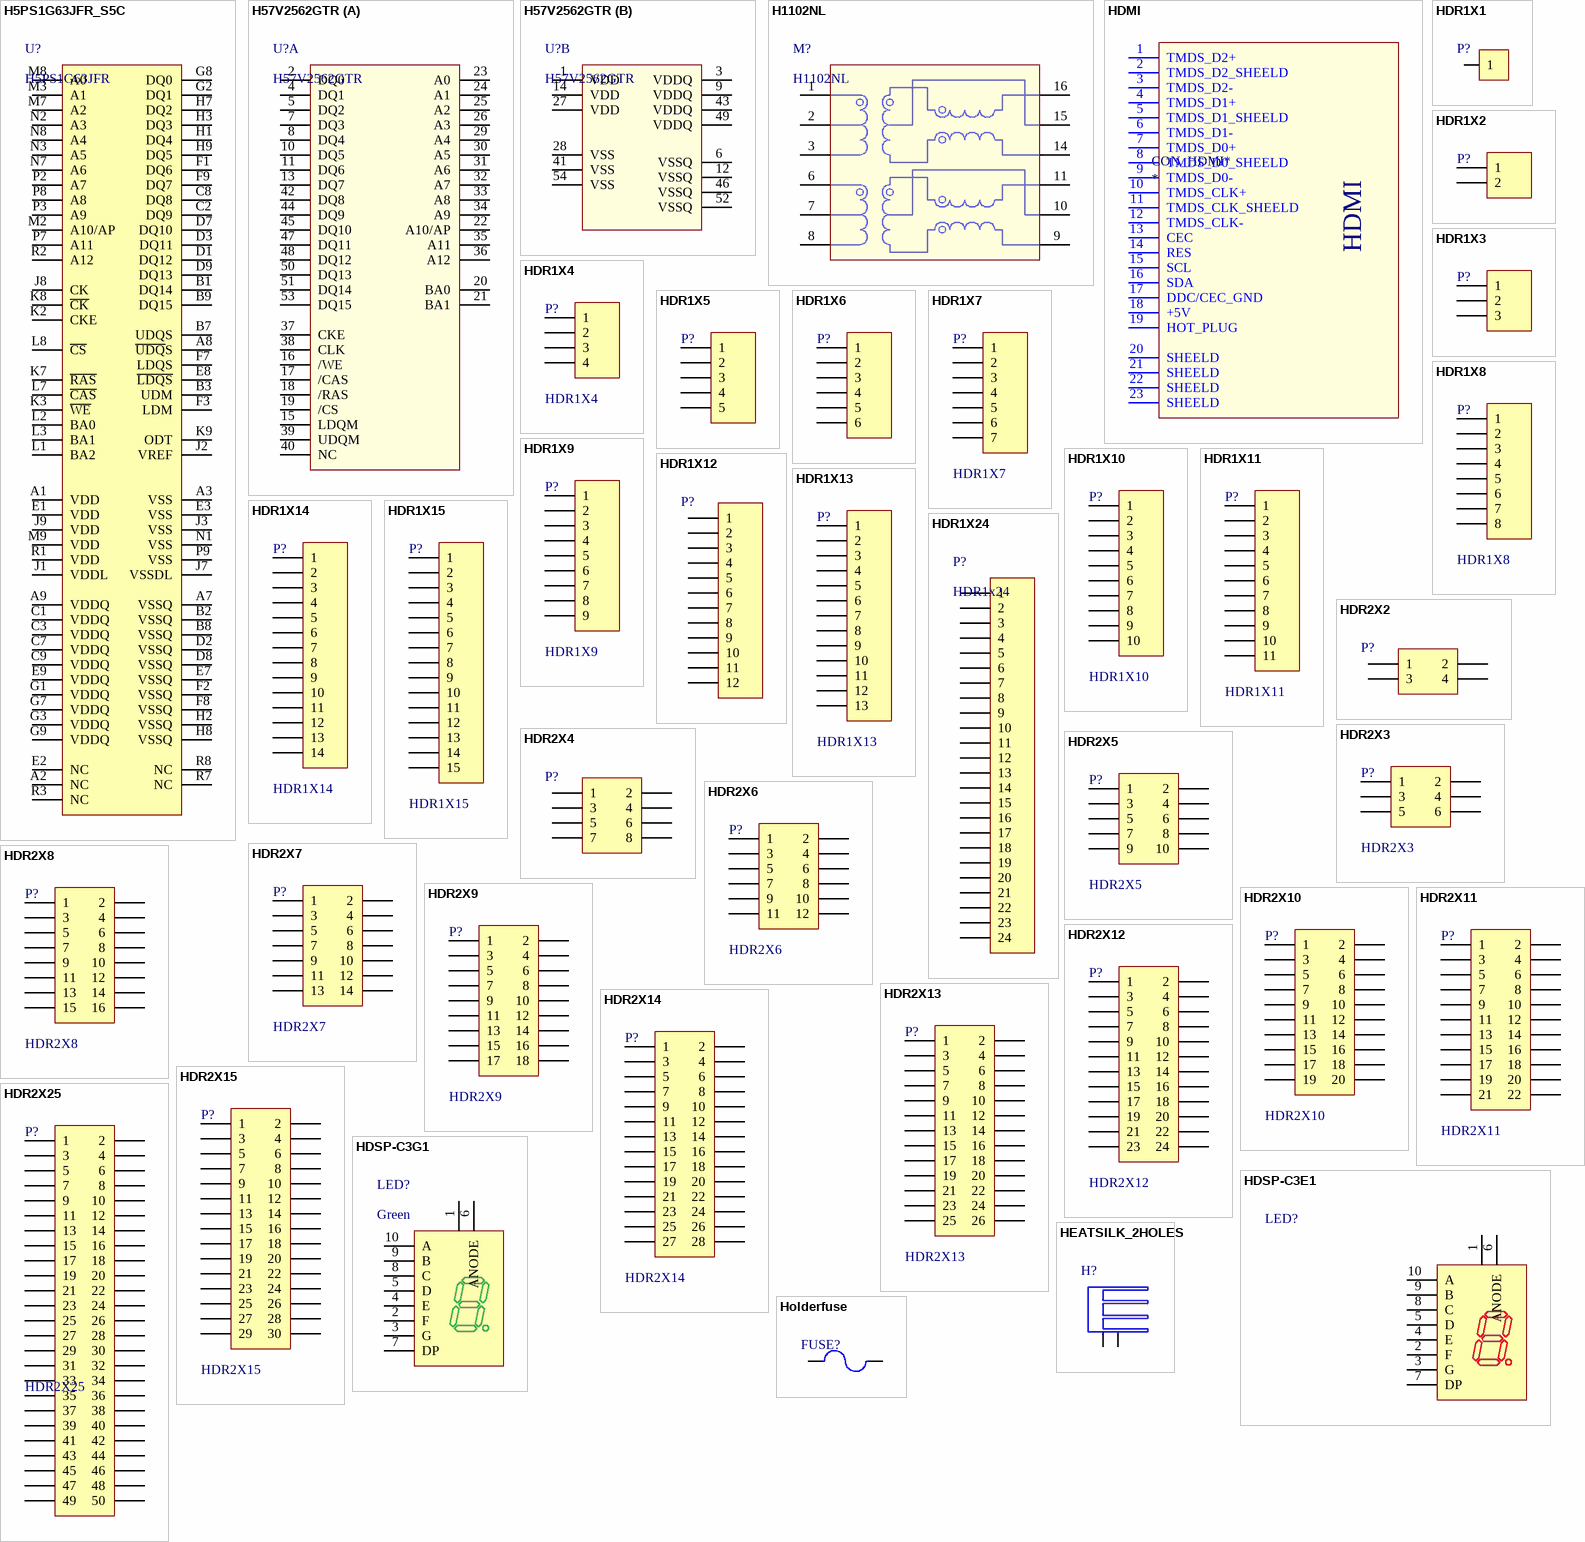
[diagram p9: symbols H5PS1G63JFR_S5C to Holderfuse]

## H5PS1G63JFR_S5C
designator U?, comment H5PS1G63JFR
64Mx16 DDR2
footprint BGA84
pins: A1 VDD, A2 NC, A3 VSS, A7 VSSQ, A8 ~{UDQ}S, A9 VDDQ, B1 DQ14, B2 VSSQ, B3 UDM, B7 UDQS, B8 VSSQ, B9 DQ15, C1 VDDQ, C2 DQ9, C3 VDDQ, C7 VDDQ, C8 DQ8, C9 VDDQ, D1 DQ12, D2 VSSQ, D3 DQ11, D7 DQ10, D8 VSSQ, D9 DQ13, E1 VDD, E2 NC, E3 VSS, E7 VSSQ, E8 ~{LDQS}, E9 VDDQ, F1 DQ6, F2 VSSQ, F3 LDM, F7 LDQS, F8 VSSQ, F9 DQ7, G1 VDDQ, G2 DQ1, G3 VDDQ, G7 VDDQ, G8 DQ0, G9 VDDQ, H1 DQ4, H2 VSSQ, H3 DQ3, H7 DQ2, H8 VSSQ, H9 DQ5, J1 VDDL, J2 VREF, J3 VSS, J7 VSSDL, J8 CK, J9 VDD, K2 CKE, K3 ~{WE}, K7 ~{RAS}, K8 ~{CK}, K9 ODT, L1 BA2, L2 BA0, L3 BA1, L7 ~{CAS}, L8 ~{CS}, M2 A10/AP, M3 A1, M7 A2, M8 A0, M9 VDD, N1 VSS, N2 A3, N3 A5, N7 A6, N8 A4, P2 A7, P3 A9, P7 A11, P8 A8, P9 VSS, R1 VDD, R2 A12, R3 NC, R7 NC, R8 NC

## H57V2562GTR
designator U?
32MB SDRAM 16-bit
footprint TSOP54 (TSOP, 54-Leads, Body 22,21x10,13mm, Pitch 0,80mm, IPC Medium Density)
part A pins: 2 DQ0, 4 DQ1, 5 DQ2, 7 DQ3, 8 DQ4, 10 DQ5, 11 DQ6, 13 DQ7, 15 LDQM, 16 /WE, 17 /CAS, 18 /RAS, 19 /CS, 20 BA0, 21 BA1, 22 A10/AP, 23 A0, 24 A1, 25 A2, 26 A3, 29 A4, 30 A5, 31 A6, 32 A7, 33 A8, 34 A9, 35 A11, 36 A12, 37 CKE, 38 CLK, 39 UDQM, 40 NC, 42 DQ8, 44 DQ9, 45 DQ10, 47 DQ11, 48 DQ12, 50 DQ13, 51 DQ14, 53 DQ15
part B pins: 1 VDD, 3 VDDQ, 6 VSSQ, 9 VDDQ, 12 VSSQ, 14 VDD, 27 VDD, 28 VSS, 41 VSS, 43 VDDQ, 46 VSSQ, 49 VDDQ, 52 VSSQ, 54 VSS

## H1102NL
designator M?
footprint H110X (Pulse Transformer for Ethernet)
pins: 1 TD+, 2, 3, 6 4, 7 5, 8 6, 9 7, 10 8, 11 9, 14 10, 15 11, 16 12

## HDMI
designator CON_HDMI*
footprint HDMI_MOLEX (MOLEX - 47151-1001)
pins: 1 TMDS_D2+, 2 TMDS_D2_SHEELD, 3 TMDS_D2-, 4 TMDS_D1+, 5 TMDS_D1_SHEELD, 6 TMDS_D1-, 7 TMDS_D0+, 8 TMDS_D0_SHEELD, 9 TMDS_D0-, 10 TMDS_CLK+, 11 TMDS_CLK_SHEELD, 12 TMDS_CLK-, 13 CEC, 14 RES, 15 SCL, 16 SDA, 17 DDC/CEC_GND, 18 +5V, 19 HOT_PLUG, 20 SHEELD, 21 SHEELD, 22 SHEELD, 23 SHEELD

## HDR1X1
designator P?  (value not drawn)
Header, 1-Pin
footprint HDR1X1 (Header, 1-Pin)
pins: 1

## HDR1X2
designator P?  (value not drawn)
Header, 2-Pin; LatestRevisionDate: 17-Jul-2002; LatestRevisionNote: Re-released for DXP Platform.; Publisher: Altium Limited
footprint HDR1X2 (Connector; Header; 2 Position)
pins: 1, 2

## HDR1X3
designator P?  (value not drawn)
Header, 3-Pin; LatestRevisionDate: 17-Jul-2002; LatestRevisionNote: Re-released for DXP Platform.; Publisher: Altium Limited
footprint HDR1X3 (Connector; Header; 3 Position)
pins: 1, 2, 3

## HDR1X4
designator P?
Header, 4-Pin; LatestRevisionDate: 17-Jul-2002; LatestRevisionNote: Re-released for DXP Platform.; Publisher: Altium Limited
footprint HDR1X4 (Connector; Header; 4 Position)
pins: 1, 2, 3, 4

## HDR1X5
designator P?  (value not drawn)
Header, 5-Pin; LatestRevisionDate: 17-Jul-2002; LatestRevisionNote: Re-released for DXP Platform.; Publisher: Altium Limited
footprint HDR1X5 (Connector; Header; 5 Position)
pins: 1, 2, 3, 4, 5

## HDR1X6
designator P?  (value not drawn)
Header, 6-Pin; LatestRevisionDate: 17-Jul-2002; LatestRevisionNote: Re-released for DXP Platform.; Publisher: Altium Limited
footprint HDR1X6 (Connector; Header; 6 Position)
pins: 1, 2, 3, 4, 5, 6

## HDR1X7
designator P?
Header, 7-Pin; LatestRevisionDate: 17-Jul-2002; LatestRevisionNote: Re-released for DXP Platform.; Publisher: Altium Limited
footprint HDR1X7 (Connector; Header; 7 Position)
pins: 1, 2, 3, 4, 5, 6, 7

## HDR1X8
designator P?
Header, 8-Pin; LatestRevisionDate: 17-Jul-2002; LatestRevisionNote: Re-released for DXP Platform.; Publisher: Altium Limited
footprint HDR1X8 (Connector; Header; 8 Position)
pins: 1, 2, 3, 4, 5, 6, 7, 8

## HDR1X9
designator P?
Header, 9-Pin; LatestRevisionDate: 17-Jul-2002; LatestRevisionNote: Re-released for DXP Platform.; Publisher: Altium Limited
footprint HDR1X9 (Connector; Header; 9 Position)
pins: 1, 2, 3, 4, 5, 6, 7, 8, 9

## HDR1X10
designator P?
Header, 10-Pin; LatestRevisionDate: 17-Jul-2002; LatestRevisionNote: Re-released for DXP Platform.; Publisher: Altium Limited
footprint HDR1X10 (Connector; Header; 10 Position)
pins: 1, 2, 3, 4, 5, 6, 7, 8, 9, 10

## HDR1X11
designator P?
Header, 11-Pin; LatestRevisionDate: 17-Jul-2002; LatestRevisionNote: Re-released for DXP Platform.; Publisher: Altium Limited
footprint HDR1X11 (Connector; Header; 11 Position)
pins: 1, 2, 3, 4, 5, 6, 7, 8, 9, 10, 11

## HDR1X12
designator P?  (value not drawn)
Header, 12-Pin
footprint HDR1X12 (Connector; Header; 12 Position)
pins: 1, 2, 3, 4, 5, 6, 7, 8, 9, 10, 11, 12

## HDR1X13
designator P?
Header, 13-Pin; LatestRevisionDate: 17-Jul-2002; LatestRevisionNote: Re-released for DXP Platform.; Publisher: Altium Limited
footprint HDR1X13 (Connector; Header; 13 Position)
pins: 1, 2, 3, 4, 5, 6, 7, 8, 9, 10, 11, 12, 13

## HDR1X14
designator P?
Header, 14-Pin; LatestRevisionDate: 17-Jul-2002; LatestRevisionNote: Re-released for DXP Platform.; Publisher: Altium Limited
footprint HDR1X14 (Connector; Header; 14 Position)
pins: 1, 2, 3, 4, 5, 6, 7, 8, 9, 10, 11, 12, 13, 14

## HDR1X15
designator P?
Header, 15-Pin; LatestRevisionDate: 17-Jul-2002; LatestRevisionNote: Re-released for DXP Platform.; Publisher: Altium Limited
footprint HDR1X15 (Connector; Header; 15 Position)
pins: 1, 2, 3, 4, 5, 6, 7, 8, 9, 10, 11, 12, 13, 14, 15

## HDR1X24
designator P?, comment HDR1x24
footprint HDR1X24 (Connector; Header; 24Position)
pins: 1, 2, 3, 4, 5, 6, 7, 8, 9, 10, 11, 12, 13, 14, 15, 16, 17, 18, 19, 20, 21, 22, 23, 24

## HDR2X2
designator P?  (value not drawn)
Header, 2-Pin, Dual row
footprint HDR2X2 (Connector; Header; 2X2 Position)
footprint HDR2X2_SMD
pins: 1, 2, 3, 4

## HDR2X3
designator P?
Header, 3-Pin, Dual row; LatestRevisionDate: 17-Jul-2002; LatestRevisionNote: Re-released for DXP Platform.; Publisher: Altium Limited
footprint HDR2X3 (Connector; Header; 3x2 Position)
footprint HDR2X3_SMD
pins: 1, 2, 3, 4, 5, 6

## HDR2X4
designator P?  (value not drawn)
Header, 4-Pin, Dual Row
footprint HDR2X4 (Connector; Header; 2X4 Position)
footprint HDR2X4_SMD
pins: 1, 2, 3, 4, 5, 6, 7, 8

## HDR2X5
designator P?
Header, 5-Pin, Dual row; LatestRevisionDate: 17-Jul-2002; LatestRevisionNote: Re-released for DXP Platform.; Publisher: Altium Limited
footprint HDR2X5 (Connector; Header; 5x2 Position)
footprint HDR2X5_SMD
pins: 1, 2, 3, 4, 5, 6, 7, 8, 9, 10

## HDR2X6
designator P?
Header, 6-Pin, Dual row; LatestRevisionDate: 17-Jul-2002; LatestRevisionNote: Re-released for DXP Platform.; Publisher: Altium Limited
footprint HDR2X6 (Connector; Header; 6x2 Position)
footprint HDR2X6_SMD
pins: 1, 2, 3, 4, 5, 6, 7, 8, 9, 10, 11, 12